# Altium schematic symbol library MySchLib.SchLib: 286 symbols (part 4 of 5)
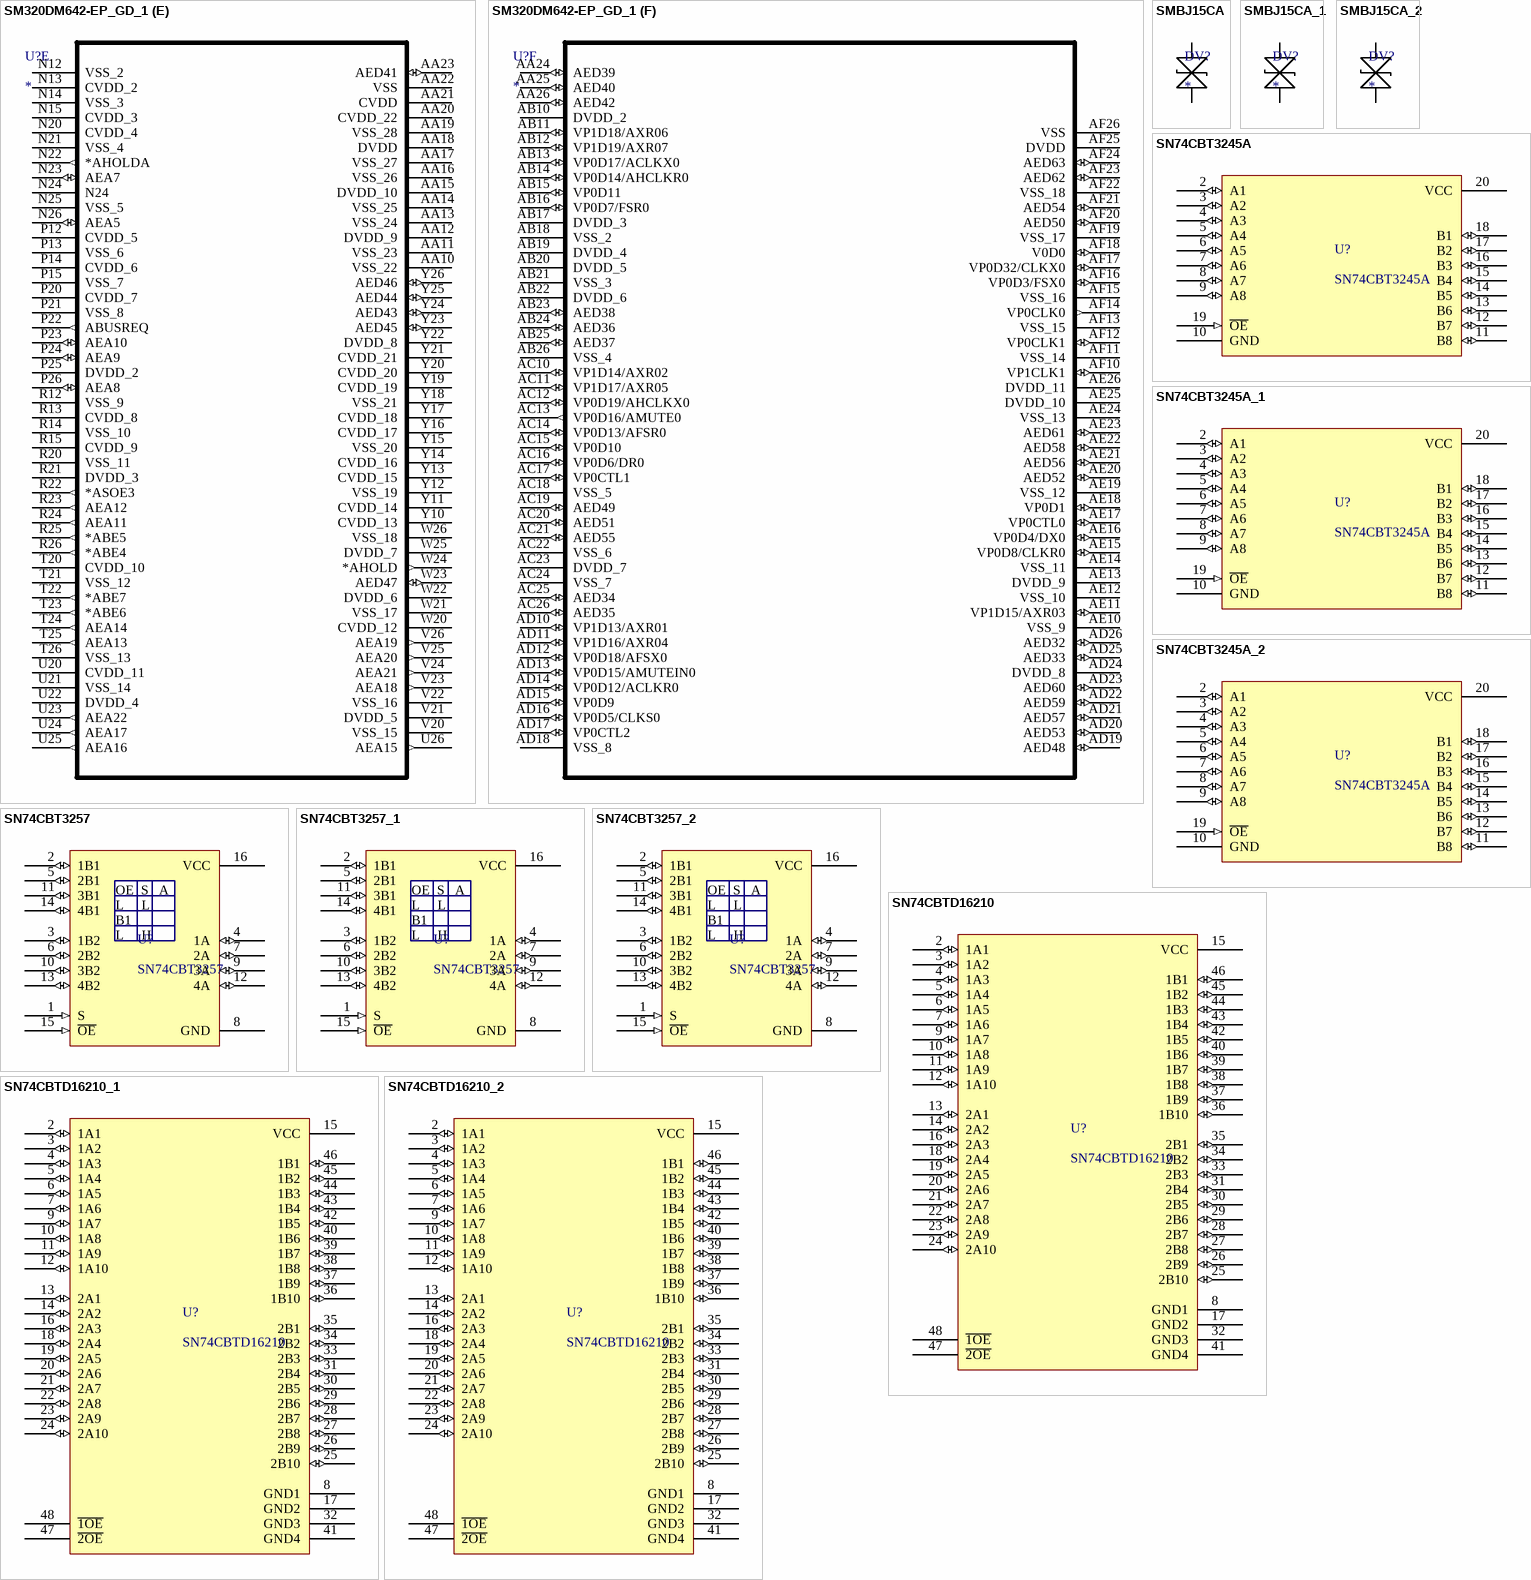
[diagram p32: symbols SM320DM642-EP_GD_1 to SN74CBTD16210_2]

## SM320DM642-EP_GD_1
designator U?
Imported
footprint GDK548; pin to pad A1>1 A2>2 A3>3 A4>4 A5>5 A6>6 A7>7 A8>8 A9>9 A10>10 A11>11 A12>12 A13>13 A14>14 A15>15 A16>16 A17>17 A18>18 A19>19 A20>20 A21>21 A22>22 A23>23 A24>24 A25>25 A26>26 AA1>393 AA2>394 AA3>395 AA4>396 AA5>397 AA6>398 AA7>399 AA8>400 AA9>401 AA10>402 AA11>403 AA12>404 AA13>405 AA14>406 AA15>407 AA16>408 AA17>409 AA18>410 AA19>411 AA20>412 AA21>413 AA22>414 AA23>415 AA24>416 AA25>417 AA26>418 AB1>419 AB2>420 AB3>421 AB4>422 AB5>423 AB6>424 AB7>425 AB8>426 AB9>427 AB10>428 AB11>429 AB12>430 AB13>431 AB14>432 AB15>433 AB16>434 AB17>435 AB18>436 AB19>437 AB20>438 AB21>439 AB22>440 AB23>441 AB24>442 AB25>443 AB26>444 AC1>445 AC2>446 AC3>447 AC4>448 AC5>449 AC6>450 AC7>451 AC8>452 AC9>453 AC10>454 AC11>455 AC12>456 AC13>457 AC14>458 AC15>459 AC16>460 AC17>461 AC18>462 AC19>463 AC20>464 AC21>465 AC22>466 AC23>467 AC24>468 AC25>469 AC26>470 AD1>471 AD2>472 AD3>473 AD4>474 AD5>475 AD6>476 AD7>477 AD8>478 AD9>479 AD10>480 AD11>481 AD12>482 AD13>483 AD14>484 AD15>485 AD16>486 AD17>487 AD18>488 AD19>489 AD20>490 AD21>491 AD22>492 AD23>493 AD24>494 AD25>495 AD26>496 AE1>497 AE2>498 AE3>499 AE4>500 AE5>501 AE6>502 AE7>503 AE8>504 AE9>505 AE10>506 AE11>507 AE12>508 AE13>509 AE14>510 AE15>511 AE16>512 AE17>513 AE18>514 AE19>515 AE20>516 AE21>517 AE22>518 AE23>519 AE24>520 AE25>521 AE26>522 AF1>523 AF2>524 AF3>525 AF4>526 AF5>527 AF6>528 AF7>529 AF8>530 AF9>531 AF10>532 AF11>533 AF12>534 AF13>535 AF14>536 AF15>537 AF16>538 AF17>539 AF18>540 AF19>541 AF20>542 AF21>543 AF22>544 AF23>545 AF24>546 AF25>547 AF26>548 B1>27 B2>28 B3>29 B4>30 B5>31 B6>32 B7>33 B8>34 B9>35 B10>36 B11>37 B12>38 B13>39 B14>40 B15>41 B16>42 B17>43 B18>44 B19>45 B20>46 B21>47 B22>48 B23>49 B24>50 B25>51 B26>52 C1>53 C2>54 C3>55 C4>56 C5>57 C6>58 C7>59 C8>60 C9>61 C10>62 C11>63 C12>64 C13>65 C14>66 C15>67 C16>68 C17>69 C18>70 C19>71 C20>72 C21>73 C22>74 C23>75 C24>76 C25>77 C26>78 D1>79 D2>80 D3>81 D4>82 D5>83 D6>84 D7>85 D8>86 D9>87 D10>88 D11>89 D12>90 D13>91 D14>92 D15>93 D16>94 D17>95 D18>96 D19>97 D20>98 D21>99 D22>100 D23>101 D24>102 D25>103 D26>104 E1>105 E2>106 E3>107 E4>108 E5>109 E6>110 E7>111 E8>112 E9>113 E10>114 E11>115 E12>116 E13>117 E14>118 E15>119 E16>120 E17>121 E18>122 E19>123 E20>124 E21>125 E22>126 E23>127 E24>128 E25>129 E26>130 F1>131 F2>132 F3>133 F4>134 F5>135 F6>136 F7>137 F8>138 F9>139 F10>140 F11>141 F12>142 F13>143 F14>144 F15>145 F16>146 F17>147 F18>148 F19>149 F20>150 F21>151 F22>152 F23>153 F24>154 F25>155 F26>156 G1>157 G2>158 G3>159 G4>160 G5>161 G6>162 G7>163 G8>164 G9>165 G10>166 G11>167 G12>168 G13>169 G14>170 G15>171 G16>172 G17>173 G18>174 G19>175 G20>176 G21>177 G22>178 G23>179 G24>180 G25>181 G26>182 H1>183 H2>184 H3>185 H4>186 H5>187 H6>188 H7>189 H20>190 H21>191 H22>192 H23>193 H24>194 H25>195 H26>196 J1>197 J2>198 J3>199 J4>200 J5>201 J6>202 J7>203 J20>204 J21>205 J22>206 J23>207 J24>208 J25>209 J26>210 K1>211 K2>212 K3>213 K4>214 K5>215 K6>216 K7>217 K20>218 K21>219 K22>220 K23>221 K24>222 K25>223 K26>224 L1>225 L2>226 L3>227 L4>228 L5>229 L6>230 L7>231 L20>232 L21>233 L22>234 L23>235 L24>236 L25>237 L26>238 M1>239 M2>240 M3>241 M4>242 M5>243 M6>244 M7>245 M12>246 M13>247 M14>248 M15>249 M20>250 M21>251 M22>252 M23>253 M24>254 M25>255 M26>256 N1>257 N2>258 N3>259 N4>260 N5>261 N6>262 N7>263 N12>264 N13>265 N14>266 N15>267 N20>268 N21>269 N22>270 N23>271 N24>272 N25>273 N26>274 P1>275 P2>276 P3>277 P4>278 P5>279 P6>280 P7>281 P12>282 P13>283 P14>284 P15>285 P20>286 P21>287 P22>288 P23>289 P24>290 P25>291 P26>292 R1>293 R2>294 R3>295 R4>296 R5>297 R6>298 R7>299 R12>300 R13>301 R14>302 R15>303 R20>304 R21>305 R22>306 R23>307 R24>308 R25>309 R26>310 T1>311 T2>312 T3>313 T4>314 T5>315 T6>316 T7>317 T20>318 T21>319 T22>320 T23>321 T24>322 T25>323 T26>324 U1>325 U2>326 U3>327 U4>328 U5>329 U6>330 U7>331 U20>332 U21>333 U22>334 U23>335 U24>336 U25>337 U26>338 V1>339 V2>340 V3>341 V4>342 V5>343 V6>344 V7>345 V20>346 V21>347 V22>348 V23>349 V24>350 V25>351 V26>352 W1>353 W2>354 W3>355 W4>356 W5>357 W6>358 W7>359 W20>360 W21>361 W22>362 W23>363 W24>364 W25>365 W26>366 Y1>367 Y2>368 Y3>369 Y4>370 Y5>371 Y6>372 Y7>373 Y8>374 Y9>375 Y10>376 Y11>377 Y12>378 Y13>379 Y14>380 Y15>381 Y16>382 Y17>383 Y18>384 Y19>385 Y20>386 Y21>387 Y22>388 Y23>389 Y24>390 Y25>391 Y26>392
part A pins: A1 VSS_2 (power), A2 DVDD_2 (power), A3 VSS_3 (power), A4 TINP0 (out), A5 TINP1 (out), A6 VSS_4 (power), A7 VP2CLK0 (out), A8 VSS_5 (power), A9 VP2D2 (io), B1 DVDD_3 (power), B2 DVDD_4 (power), B3 VSS_6 (power), B4 NMI (out), B5 TOUT1/LENDIAN (out), B6 VSS_7 (power), B7 VSS_8 (power), B8 VP2CTL0 (io), B9 VP2D3 (io), C1 GP014/PCLK (io), C2 VSS_9 (power), C3 DVDD_5 (power), C4 VSS_10 (power), C5 TOUT0/MAC_EN (out), C6 CLKOUT6/GP02 (io), C7 VP2CTL2 (io), C8 VP2D0 (io), C9 VP2D4 (io), D1 VSS_11 (power), D2 VSS_12 (power), D3 SDA0 (io), D4 DVDD_6 (power), D5 VSS_13 (power), D6 CLKOUT4/GP01 (io), D7 VP2CTL1 (io), D8 VP2D1 (io), D9 VP2D5 (io), E1 GP07/EXT_INT7 (io), E2 PCI_EN (out), E3 VSS_14 (power), E4 SCL0 (io), E5 DVDD_7 (power), E6 VSS_15 (power), E7 DVDD_8 (power), E8 DVDD_9 (power), E9 VSS_16 (power), F1 GP011/*PREQ (io), F2 GP06/EXT_INT6 (io), F3 GP05/EXT_INT5 (io), F4 GP04/EXT_INT4 (io), F5 VSS_17 (power), F6 CVDD_2 (power), F7 CVDD_3 (power), F8 VSS_18 (power), F9 DVDD_10 (power), G1 HD31/AD31/MRCLK (out), G2 HD29/AD29/MRXER (out), G3 GP015/*PRST (io), G4 GP013/*PINTA (io), G5 DVDD_11 (power), G6 CVDD_4 (power), G7 CVDD_5 (power), G8 CVDD_6 (power), G9 VSS_19 (power), H1 VSS_20 (power), H2 HD27/AD27/MRXD3 (out), H3 HD30/AD30/MCRS (out), H4 GP012/*PGNT (io), H5 DVDD_12 (power), H6 VSS_21 (power), H7 RSV, J1 HD25/AD25/MRXD1 (io), J2 GP010/*PCBE3 (io), J3 HD256/AD26/MRXD2 (out), J4 HD28/AD28/MRXDV (out), J5 VSS_22 (power), J6 DVDD_13 (power), J7 VSS_23 (power), K1 HD23/AD23 (io), K2 HD21/AD21/MCOL (out), K3 GP09/PIDSEL (io), K4 HD24/AD24/MRXD0 (out), K5 DVDD (power), K6 VSS_24 (power), K7 CVDD_7 (power), L1 VSS_25 (power), L2 HD19/AD19/MTXD3 (out), L3 HD20/AD20/MTXEN (out), L4 HD22/AD22/MTCLK (out), L5 GP03/PCIEEAI (io), L6 VSS (power), L7 CVDD (power), M1 HR/*W/*PCBE2 (io)
part B pins: A10 VP2D6 (io), A11 VP2D10 (io), A12 VSS_17 (power), A13 VP2CLK1 (io), A14 VSS_18 (power), A15 EMU0 (io), A16 TCK (out), A17 EMU7 (io), A18 TDI (out), A19 VSS_19 (power), A20 AED13 (io), A21 AED9 (io), A22 VSS_20 (power), A23 AED5 (io), A24 AED1 (io), A25 DVDD_7 (power), A26 VSS_21 (power), AA1 HD1/AD1 (io), AA2 CLKMODE0 (io), AA3 RSV, AA4 VSS_22 (power), AA5 VSS_23 (power), AA6 CVDD_9 (power), AA7 CVDD (power), AA8 VSS_24 (power), AA9 DVDD (power), AB1 VSS_25 (power), AB2 VSS (power), M2 HD17/AD17/MTXD1 (out), M3 HD16/AD16/MTCD0 (io), M4 HD18/AD18/MTXD2 (out), M5 GP00 (io), M6 DVDD_2 (power), M7 VSS_2 (power), N1 *HRDY/*PIRDY (io), N2 DVDD_3 (power), N3 HHWIL/*PTRDY (io), N4 *HINT/*PFRAME (io), N5 VSS_3 (power), N6 VSS_4 (power), N7 CVDD_2 (power), P1 HCNTL1/*PDEVSEL (io), P2 VSS_5 (power), P3 *HAS/PPAR (io), P4 *RESET (out), P5 XSP_DO/MDIO (io), P6 VSS_6 (power), P7 CVDD_3 (power), R1 *HCS/*PPERR (io), R2 *HDS1/*PSERR (io), R3 HCNTL0/*PSTOP (io), R4 XSP_DI (out), R5 XSP_CLK/MDCLK (io), R6 RSV_2, R7 VSS_7 (power), T1 VSS_8 (power), T2 *HDS2/*PCBE1 (io), T3 HD15/AD15 (io), T4 XSP_CS (io), T5 VSS_9 (power), T6 VSS_10 (power), T7 CVDD_4 (power), U1 HD14/AD14 (io), U2 HD12/AD12 (io), U3 HD13/AD13 (io), U4 HD11/AD11 (io), U5 DVDD_4 (power), U6 VSS_11 (power), U7 CVDD_5 (power), V1 HD10/AD10 (io), V2 HD8/AD8 (io), V3 HD0/AD9 (io), V4 *PCBE0 (io), V5 VSS_12 (power), V6 PLLV (power), V7 VSS_13 (power), W1 VSS_14 (power), W2 HD7/AD7 (io), W3 HD4/AD4 (io), W4 HD6/AD6 (io), W5 DVDD_5 (power), W6 VSS_15 (power), W7 RSV_3, Y1 HD5/AD5 (io), Y2 HD3/AD3 (io), Y3 HD0/AD0 (io), Y4 HD2/AD2 (io), Y5 DVDD_6 (power), Y6 CVDD_6 (power), Y7 CVDD_7 (power), Y8 CVDD_8 (power), Y9 VSS_16 (power)
part C pins: AB3 RSV_2, AB4 VSS_2 (power), AB5 DVDD_2 (power), AB6 VSS_3 (power), AB7 DVDD_3 (power), AB8 DVDD_4 (power), AB9 VSS_4 (power), AC1 STCLK (out), AC2 CLKIN (out), AC3 VSS_5 (power), AC4 RSV_3, AC5 VSS_6 (power), AC6 VP1D4/DX1 (io), AC7 VP1D7/FSR1 (io), AC8 VP1D9 (io), AC9 VP1D12/AXR00 (io), AD1 VDAC/GP08/*PCI66 (io), AD2 VSS_7 (power), AD3 RSV_4, AD4 VSS_8 (power), AD5 VP1CTL2 (io), AD6 VP1D3/FSX1 (io), AD7 VP1D6/DR1 (io), AD8 VP1D8/CLKR1 (io), AD9 VP1D11 (io), AE1 DVDD_5 (power), AE2 DVDD_6 (power), AE3 VSS_9 (power), AE4 CLKMODE1 (out), AE5 VP1CTL1 (io), AE6 VP1D2/CLKX1 (io), AE7 VP1D5/CLKS1 (out), AE8 VSS_10 (power), AE9 VP1D10 (io), AF1 VSS_11 (power), AF2 DVDD_7 (power), AF3 RSV, AF4 VP1CTL0 (io), AF5 VP1D0 (io), AF6 VP1D1 (io), AF7 VSS_12 (power), AF8 VP1CLK0 (out), AF9 VSS_13 (power), B10 VP2D7 (io), B11 VP2D11 (io), B12 VP2D15 (io), B13 VSS_14 (power), B14 DVDD_8 (power), B15 EMU2 (io), B16 EMU5 (io), B17 EMU9 (io), B18 TDO (out), B19 VSS_15 (power), B20 AED11 (io), B21 AED7 (io), B22 AED3 (io), B23 AED2 (io), B24 AED0 (io), B25 DVDD_9 (power), B26 DVDD_10 (power), C10 VP2D8 (io), C11 VP2D12 (io), C12 VP2D16 (io), C13 VSS_16 (power), C14 EMU11_2 (io), C15 EMU3 (io), C16 EMU6 (io), C17 EMU10 (io), C18 VSS_17 (power), C19 AED15 (io), C20 AED10 (io), C21 AED6 (io), C22 AED4 (io), C23 VSS_18 (power), C24 DVDD_11 (power), C25 AED30 (io), C26 AED31 (io), D10 VP2D9 (io), D11 VP2D13 (io), D12 VP2D17 (io), D13 VSS_19 (power), D14 *TRST (out), D15 EMU4 (io), D16 EMU8 (io), D17 EMU11 (io), D18 VSS_20 (power), D19 AED14 (io), D20 AED12 (io), D21 AED8 (io), D22 VSS_21 (power), D23 DVDD (power), D24 VSS (power)
part D pins: D25 AED28 (io), D26 AED29 (io), E10 DVDD_2 (power), E11 VP2D14 (io), E12 VP2D18 (io), E13 VP2D19 (io), E14 RSV, E15 TMS (out), E16 VSS_2 (power), E17 DVDD_3 (power), E18 VSS_3 (power), E19 DVDD_4 (power), E20 DVDD_5 (power), E21 VSS_4 (power), E22 DVDD_6 (power), E23 VSS_5 (power), E24 AED27 (io), E25 AED26 (io), E26 VSS_6 (power), F10 VSS_7 (power), F11 VSS_8 (power), F12 DVDD_7 (power), F13 VSS_9 (power), F14 VSS_10 (power), F15 DVDD_8 (power), F16 VSS_11 (power), F17 VSS_12 (power), F18 DVDD_9 (power), F19 VSS_13 (power), F20 CVDD_2 (power), F21 CVDD_3 (power), F22 VSS_14 (power), F23 AED23 (io), F24 AED25 (io), F25 AED24 (io), F26 AED22 (io), G10 CVDD_4 (power), G11 CVDD_5 (power), G12 VSS_15 (power), G13 CVDD_6 (power), G14 CVDD_7 (power), G15 VSS_16 (power), G16 CVDD_8 (power), G17 CVDD_9 (power), G18 VSS_17 (power), G19 CVDD_10 (power), G20 CVDD_11 (power), G21 CVDD_12 (power), G22 DVDD_10 (power), G23 AED19 (io), G24 AED21 (io), G25 AED20 (io), G26 AED18 (io), H20 CVDD_13 (power), H21 VSS_18 (power), H22 DVDD_11 (power), H23 AED17 (io), H24 AED16 (io), H25 AECLKIN (out), H26 VSS_19 (power), J20 VSS_20 (power), J21 DVDD_12 (power), J22 VSS_21 (power), J23 AECLKOUT2 (out), J24 *AAOE/*ASDRAS/*ASOE (out), J25 *AARE/*ASDCAS/*ASADS/*ASRE (out), J26 AECLKOUT1 (out), K20 CVDD_14 (power), K21 VSS_22 (power), K22 DVDD_13 (power), K23 *ACE2 (out), K24 *ACE1 (out), K25 *ACE0 (out), K26 *AAWE/*ASDWE/*ASWE (out), L20 CVDD_15 (power), L21 VSS_23 (power), L22 AARDY (out), L23 *ABE1 (out), L24 *ABE0 (out), L25 ASDCKE (out), L26 *ACE3 (out), M12 CVDD_16 (power), M13 VSS_24 (power), M14 CVDD (power), M15 VSS_25 (power), M20 VSS (power), M21 DVDD (power), M22 *APDT (out), M23 AEA4 (io), M24 AEA3 (io), M25 *ABE3 (out), M26 *ABE2 (out)
part E pins: AA10 VSS_22 (power), AA11 VSS_23 (power), AA12 DVDD_9 (power), AA13 VSS_24 (power), AA14 VSS_25 (power), AA15 DVDD_10 (power), AA16 VSS_26 (power), AA17 VSS_27 (power), AA18 DVDD (power), AA19 VSS_28 (power), AA20 CVDD_22 (power), AA21 CVDD (power), AA22 VSS (power), AA23 AED41 (io), N12 VSS_2 (power), N13 CVDD_2 (power), N14 VSS_3 (power), N15 CVDD_3 (power), N20 CVDD_4 (power), N21 VSS_4 (power), N22 *AHOLDA (out), N23 AEA7 (io), N24, N25 VSS_5 (power), N26 AEA5 (io), P12 CVDD_5 (power), P13 VSS_6 (power), P14 CVDD_6 (power), P15 VSS_7 (power), P20 CVDD_7 (power), P21 VSS_8 (power), P22 ABUSREQ (out), P23 AEA10 (io), P24 AEA9 (io), P25 DVDD_2 (power), P26 AEA8 (io), R12 VSS_9 (power), R13 CVDD_8 (power), R14 VSS_10 (power), R15 CVDD_9 (power), R20 VSS_11 (power), R21 DVDD_3 (power), R22 *ASOE3 (out), R23 AEA12 (out), R24 AEA11 (out), R25 *ABE5 (out), R26 *ABE4 (out), T20 CVDD_10 (power), T21 VSS_12 (power), T22 *ABE7 (out), T23 *ABE6 (out), T24 AEA14 (out), T25 AEA13 (out), T26 VSS_13 (power), U20 CVDD_11 (power), U21 VSS_14 (power), U22 DVDD_4 (power), U23 AEA22 (out), U24 AEA17 (out), U25 AEA16 (out), U26 AEA15 (out), V20 VSS_15 (power), V21 DVDD_5 (power), V22 VSS_16 (power), V23 AEA18 (out), V24 AEA21 (out), V25 AEA20 (out), V26 AEA19 (out), W20 CVDD_12 (power), W21 VSS_17 (power), W22 DVDD_6 (power), W23 AED47 (io), W24 *AHOLD (out), W25 DVDD_7 (power), W26 VSS_18 (power), Y10 CVDD_13 (power), Y11 CVDD_14 (power), Y12 VSS_19 (power), Y13 CVDD_15 (power), Y14 CVDD_16 (power), Y15 VSS_20 (power), Y16 CVDD_17 (power), Y17 CVDD_18 (power), Y18 VSS_21 (power), Y19 CVDD_19 (power), Y20 CVDD_20 (power), Y21 CVDD_21 (power), Y22 DVDD_8 (power), Y23 AED45 (io), Y24 AED43 (io), Y25 AED44 (io), Y26 AED46 (io)
part F pins: AA24 AED39 (io), AA25 AED40 (io), AA26 AED42 (io), AB10 DVDD_2 (power), AB11 VP1D18/AXR06 (io), AB12 VP1D19/AXR07 (io), AB13 VP0D17/ACLKX0 (io), AB14 VP0D14/AHCLKR0 (io), AB15 VP0D11 (io), AB16 VP0D7/FSR0 (io), AB17 DVDD_3 (power), AB18 VSS_2 (power), AB19 DVDD_4 (power), AB20 DVDD_5 (power), AB21 VSS_3 (power), AB22 DVDD_6 (power), AB23 AED38 (io), AB24 AED36 (io), AB25 AED37 (io), AB26 VSS_4 (power), AC10 VP1D14/AXR02 (io), AC11 VP1D17/AXR05 (io), AC12 VP0D19/AHCLKX0 (io), AC13 VP0D16/AMUTE0 (out), AC14 VP0D13/AFSR0 (io), AC15 VP0D10 (io), AC16 VP0D6/DR0 (io), AC17 VP0CTL1 (io), AC18 VSS_5 (power), AC19 AED49 (io), AC20 AED51 (io), AC21 AED55 (io), AC22 VSS_6 (power), AC23 DVDD_7 (power), AC24 VSS_7 (power), AC25 AED34 (io), AC26 AED35 (io), AD10 VP1D13/AXR01 (io), AD11 VP1D16/AXR04 (io), AD12 VP0D18/AFSX0 (io), AD13 VP0D15/AMUTEIN0 (io), AD14 VP0D12/ACLKR0 (io), AD15 VP0D9 (io), AD16 VP0D5/CLKS0 (io), AD17 VP0CTL2 (io), AD18 VSS_8 (power), AD19 AED48 (io), AD20 AED53 (io), AD21 AED57 (io), AD22 AED59 (io), AD23 AED60 (io), AD24 DVDD_8 (power), AD25 AED33 (io), AD26 AED32 (io), AE10 VSS_9 (power), AE11 VP1D15/AXR03 (io), AE12 VSS_10 (power), AE13 DVDD_9 (power), AE14 VSS_11 (power), AE15 VP0D8/CLKR0 (io), AE16 VP0D4/DX0 (io), AE17 VP0CTL0 (io), AE18 VP0D1 (io), AE19 VSS_12 (power), AE20 AED52 (io), AE21 AED56 (io), AE22 AED58 (io), AE23 AED61 (io), AE24 VSS_13 (power), AE25 DVDD_10 (power), AE26 DVDD_11 (power), AF10 VP1CLK1 (io), AF11 VSS_14 (power), AF12 VP0CLK1 (io), AF13 VSS_15 (power), AF14 VP0CLK0 (out), AF15 VSS_16 (power), AF16 VP0D3/FSX0 (io), AF17 VP0D32/CLKX0 (io), AF18 V0D0 (io), AF19 VSS_17 (power), AF20 AED50 (io), AF21 AED54 (io), AF22 VSS_18 (power), AF23 AED62 (io), AF24 AED63 (io), AF25 DVDD (power), AF26 VSS (power)

## SMBJ15CA
designator DV?
footprint DO-214AA
pins: A, K

## SMBJ15CA_1
designator DV?
footprint DO-214AA
pins: A, K

## SMBJ15CA_2
designator DV?
footprint DO-214AA
pins: A, K

## SN74CBT3245A
designator U?
5-Ω Switch Connection Between Two Ports
pins: 2 A1 (io), 3 A2 (io), 4 A3 (io), 5 A4 (io), 6 A5 (io), 7 A6 (io), 8 A7 (io), 9 A8 (io), 10 GND (oe), 11 B8 (io), 12 B7 (io), 13 B6 (io), 14 B5 (io), 15 B4 (io), 16 B3 (io), 17 B2 (io), 18 B1 (io), 19 ~{OE} (in), 20 VCC (power)

## SN74CBT3245A_1
designator U?, comment SN74CBT3245A
5-Ω Switch Connection Between Two Ports
pins: 2 A1 (io), 3 A2 (io), 4 A3 (io), 5 A4 (io), 6 A5 (io), 7 A6 (io), 8 A7 (io), 9 A8 (io), 10 GND (oe), 11 B8 (io), 12 B7 (io), 13 B6 (io), 14 B5 (io), 15 B4 (io), 16 B3 (io), 17 B2 (io), 18 B1 (io), 19 ~{OE} (in), 20 VCC (power)

## SN74CBT3245A_2
designator U?, comment SN74CBT3245A
5-Ω Switch Connection Between Two Ports
pins: 2 A1 (io), 3 A2 (io), 4 A3 (io), 5 A4 (io), 6 A5 (io), 7 A6 (io), 8 A7 (io), 9 A8 (io), 10 GND (oe), 11 B8 (io), 12 B7 (io), 13 B6 (io), 14 B5 (io), 15 B4 (io), 16 B3 (io), 17 B2 (io), 18 B1 (io), 19 ~{OE} (in), 20 VCC (power)

## SN74CBT3257
designator U?
S=0,OE=1,A=B1;S=0,OE=0,A=B1;
pins: 1 S (in), 2 1B1 (io), 3 1B2 (io), 4 1A (io), 5 2B1 (io), 6 2B2 (io), 7 2A (io), 8 GND (power), 9 3A (io), 10 3B2 (io), 11 3B1 (io), 12 4A (io), 13 4B2 (io), 14 4B1 (io), 15 ~{OE} (in), 16 VCC (power)
text: OE  S   A / L     L   B1 / L     H  B2 / H    X   X

## SN74CBT3257_1
designator U?, comment SN74CBT3257
S=0,OE=1,A=B1;S=0,OE=0,A=B1;
pins: 1 S (in), 2 1B1 (io), 3 1B2 (io), 4 1A (io), 5 2B1 (io), 6 2B2 (io), 7 2A (io), 8 GND (power), 9 3A (io), 10 3B2 (io), 11 3B1 (io), 12 4A (io), 13 4B2 (io), 14 4B1 (io), 15 ~{OE} (in), 16 VCC (power)
text: OE  S   A / L     L   B1 / L     H  B2 / H    X   X

## SN74CBT3257_2
designator U?, comment SN74CBT3257
S=0,OE=1,A=B1;S=0,OE=0,A=B1;
pins: 1 S (in), 2 1B1 (io), 3 1B2 (io), 4 1A (io), 5 2B1 (io), 6 2B2 (io), 7 2A (io), 8 GND (power), 9 3A (io), 10 3B2 (io), 11 3B1 (io), 12 4A (io), 13 4B2 (io), 14 4B1 (io), 15 ~{OE} (in), 16 VCC (power)
text: OE  S   A / L     L   B1 / L     H  B2 / H    X   X

## SN74CBTD16210
designator U?
5-W Switch Connection Between Two Ports
pins: 2 1A1 (io), 3 1A2 (io), 4 1A3 (io), 5 1A4 (io), 6 1A5 (io), 7 1A6 (io), 8 GND1 (oe), 9 1A7 (io), 10 1A8 (io), 11 1A9 (io), 12 1A10 (io), 13 2A1 (io), 14 2A2 (io), 15 VCC (power), 16 2A3 (io), 17 GND2 (oe), 18 2A4 (io), 19 2A5 (io), 20 2A6 (io), 21 2A7 (io), 22 2A8 (io), 23 2A9 (io), 24 2A10 (io), 25 2B10 (io), 26 2B9 (io), 27 2B8 (io), 28 2B7 (io), 29 2B6 (io), 30 2B5 (io), 31 2B4 (io), 32 GND3 (oe), 33 2B3 (io), 34 2B2 (io), 35 2B1 (io), 36 1B10 (io), 37 1B9 (io), 38 1B8 (io), 39 1B7 (io), 40 1B6 (io), 41 GND4 (oe), 42 1B5 (io), 43 1B4 (io), 44 1B3 (io), 45 1B2 (io), 46 1B1 (io), 47 ~{2OE} (oe), 48 ~{1OE} (oe)

## SN74CBTD16210_1
designator U?, comment SN74CBTD16210
5-W Switch Connection Between Two Ports
pins: 2 1A1 (io), 3 1A2 (io), 4 1A3 (io), 5 1A4 (io), 6 1A5 (io), 7 1A6 (io), 8 GND1 (oe), 9 1A7 (io), 10 1A8 (io), 11 1A9 (io), 12 1A10 (io), 13 2A1 (io), 14 2A2 (io), 15 VCC (power), 16 2A3 (io), 17 GND2 (oe), 18 2A4 (io), 19 2A5 (io), 20 2A6 (io), 21 2A7 (io), 22 2A8 (io), 23 2A9 (io), 24 2A10 (io), 25 2B10 (io), 26 2B9 (io), 27 2B8 (io), 28 2B7 (io), 29 2B6 (io), 30 2B5 (io), 31 2B4 (io), 32 GND3 (oe), 33 2B3 (io), 34 2B2 (io), 35 2B1 (io), 36 1B10 (io), 37 1B9 (io), 38 1B8 (io), 39 1B7 (io), 40 1B6 (io), 41 GND4 (oe), 42 1B5 (io), 43 1B4 (io), 44 1B3 (io), 45 1B2 (io), 46 1B1 (io), 47 ~{2OE} (oe), 48 ~{1OE} (oe)

## SN74CBTD16210_2
designator U?, comment SN74CBTD16210
5-W Switch Connection Between Two Ports
pins: 2 1A1 (io), 3 1A2 (io), 4 1A3 (io), 5 1A4 (io), 6 1A5 (io), 7 1A6 (io), 8 GND1 (oe), 9 1A7 (io), 10 1A8 (io), 11 1A9 (io), 12 1A10 (io), 13 2A1 (io), 14 2A2 (io), 15 VCC (power), 16 2A3 (io), 17 GND2 (oe), 18 2A4 (io), 19 2A5 (io), 20 2A6 (io), 21 2A7 (io), 22 2A8 (io), 23 2A9 (io), 24 2A10 (io), 25 2B10 (io), 26 2B9 (io), 27 2B8 (io), 28 2B7 (io), 29 2B6 (io), 30 2B5 (io), 31 2B4 (io), 32 GND3 (oe), 33 2B3 (io), 34 2B2 (io), 35 2B1 (io), 36 1B10 (io), 37 1B9 (io), 38 1B8 (io), 39 1B7 (io), 40 1B6 (io), 41 GND4 (oe), 42 1B5 (io), 43 1B4 (io), 44 1B3 (io), 45 1B2 (io), 46 1B1 (io), 47 ~{2OE} (oe), 48 ~{1OE} (oe)

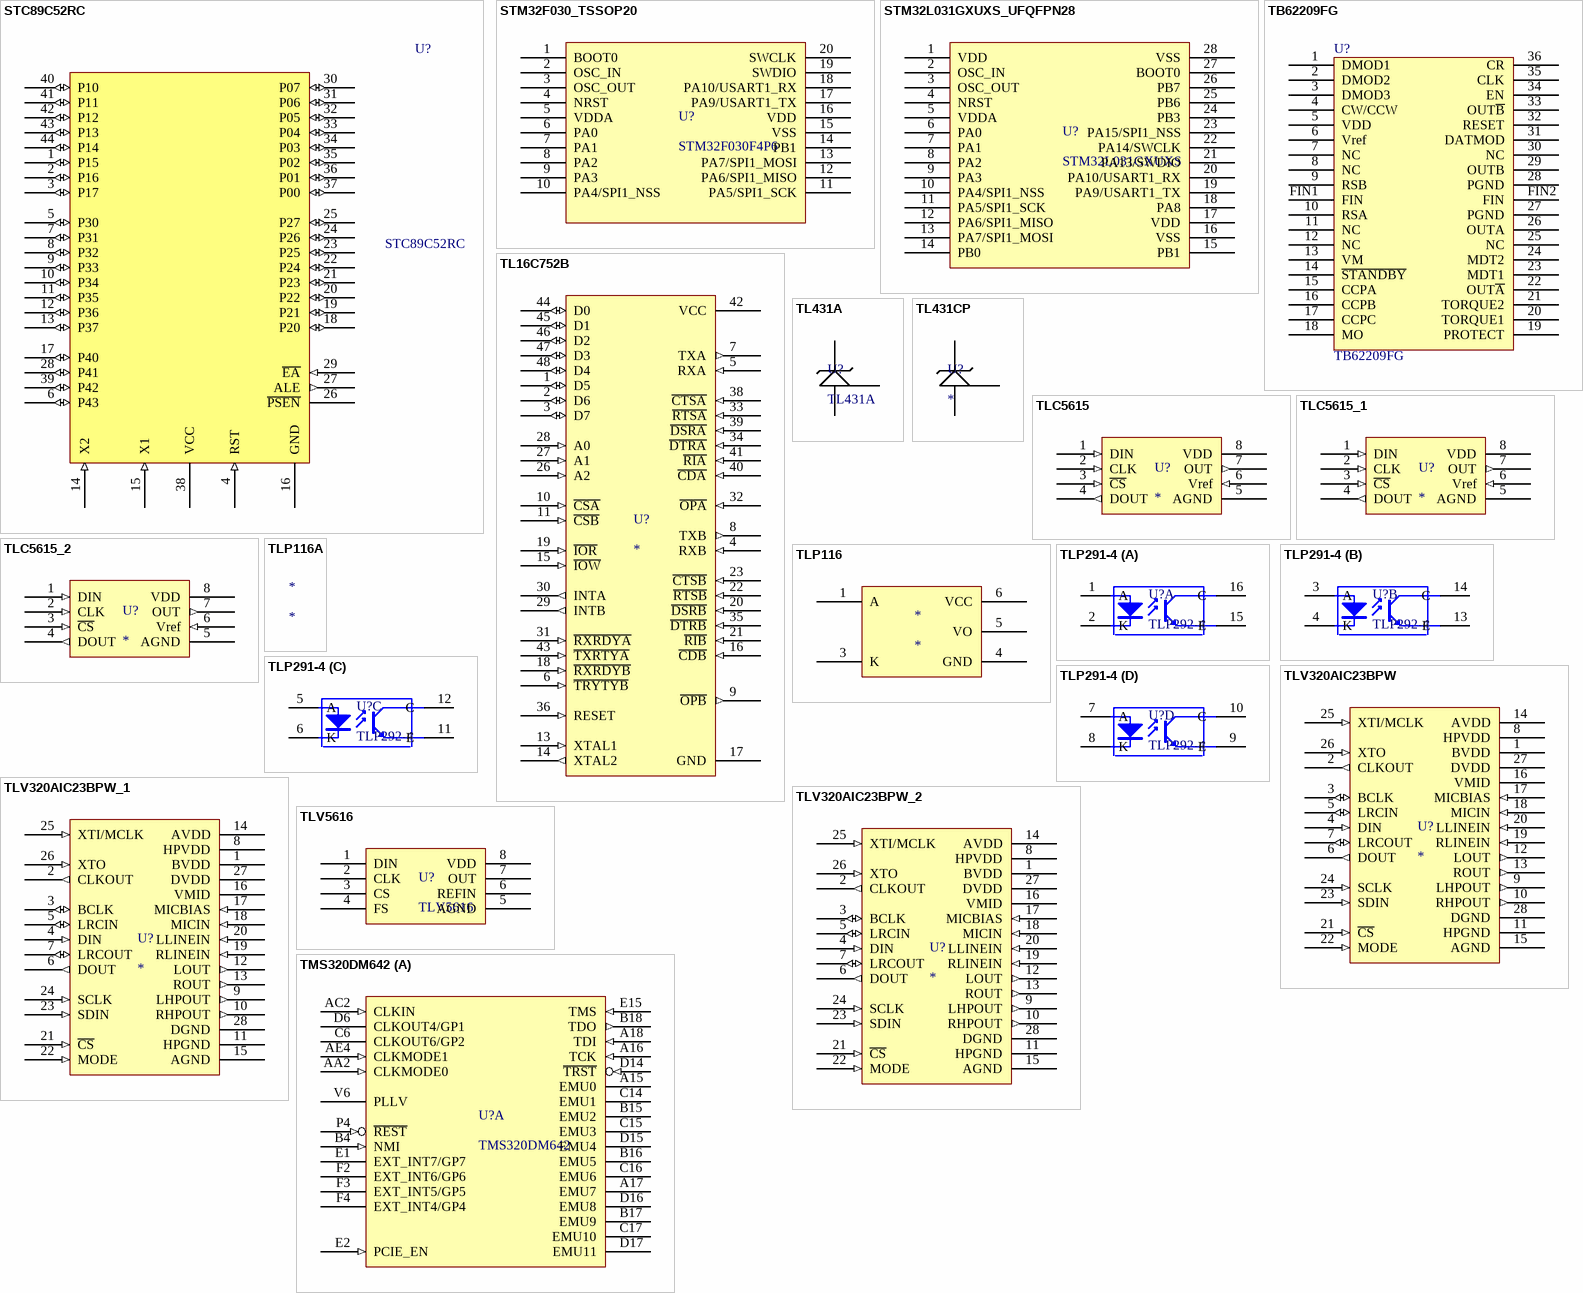
[diagram p23: symbols STC89C52RC to TMS320DM642]

## STC89C52RC
designator U?
STC
footprint PQFP44
footprint LQFP44
footprint QFP44
pins: 1 P15 (io), 2 P16 (io), 3 P17 (io), 4 RST (in), 5 P30 (io), 6 P43 (io), 7 P31 (io), 8 P32 (io), 9 P33 (io), 10 P34 (io), 11 P35 (io), 12 P36 (io), 13 P37 (io), 14 X2 (in), 15 X1 (in), 16 GND (power), 17 P40 (io), 18 P20 (io), 19 P21 (io), 20 P22 (io), 21 P23 (io), 22 P24 (io), 23 P25 (io), 24 P26 (io), 25 P27 (io), 26 ~{PSEN}, 27 ALE (out), 28 P41 (io), 29 ~{EA} (in), 30 P07 (io), 31 P06 (io), 32 P05 (io), 33 P04 (io), 34 P03 (io), 35 P02 (io), 36 P01 (io), 37 P00 (io), 38 VCC (power), 39 P42 (io), 40 P10 (io), 41 P11 (io), 42 P12 (io), 43 P13 (io), 44 P14 (io)

## STM32F030_TSSOP20
designator U?, comment STM32F030F4P6
footprint TSSOP-20
pins: 1 BOOT0, 2 OSC_IN, 3 OSC_OUT, 4 NRST, 5 VDDA, 6 PA0, 7 PA1, 8 PA2, 9 PA3, 10 PA4/SPI1_NSS, 11 PA5/SPI1_SCK, 12 PA6/SPI1_MISO, 13 PA7/SPI1_MOSI, 14 PB1, 15 VSS, 16 VDD, 17 PA9/USART1_TX, 18 PA10/USART1_RX, 19 SWDIO, 20 SWCLK

## STM32L031GXUXS_UFQFPN28
designator U?, comment STM32L031GXUXS
footprint UFQFPN28 (Footprint not found)
pins: 1 VDD, 2 OSC_IN, 3 OSC_OUT, 4 NRST, 5 VDDA, 6 PA0, 7 PA1, 8 PA2, 9 PA3, 10 PA4/SPI1_NSS, 11 PA5/SPI1_SCK, 12 PA6/SPI1_MISO, 13 PA7/SPI1_MOSI, 14 PB0, 15 PB1, 16 VSS, 17 VDD, 18 PA8, 19 PA9/USART1_TX, 20 PA10/USART1_RX, 21 PA13/SWDIO, 22 PA14/SWCLK, 23 PA15/SPI1_NSS, 24 PB3, 25 PB6, 26 PB7, 27 BOOT0, 28 VSS

## TB62209FG
designator U?
footprint HSOP36-P
pins: 1 DMOD1, 2 DMOD2, 3 DMOD3, 4 CW/CCW, 5 VDD, 6 Vref, 7 NC, 8 NC, 9 RSB, 10 RSA, 11 NC, 12 NC, 13 VM, 14 ~{STANDBY}, 15 CCPA, 16 CCPB, 17 CCPC, 18 MO, 19 PROTECT, 20 TORQUE1, 21 TORQUE2, 22 OUT~{A}, 23 MDT1, 24 MDT2, 25 NC, 26 OUTA, 27 PGND, 28 PGND, 29 OUTB, 30 NC, 31 DATMOD, 32 RESET, 33 OUT~{B}, 34 EN, 35 CLK, 36 CR, FIN1 FIN, FIN2 FIN

## TL16C752B
designator U?
footprint TQFP-48 (Footprint not found)
pins: 1 D5 (io), 2 D6 (io), 3 D7 (io), 4 RXB (in), 5 RXA (in), 6 ~{TRYTYB} (in), 7 TXA (out), 8 TXB (out), 9 ~{OPB} (out), 10 ~{CSA} (in), 11 ~{CSB} (in), 12 NC hidden, 13 XTAL1 (in), 14 XTAL2 (out), 15 ~{IOW} (in), 16 ~{CDB} (in), 17 GND (power), 18 ~{RXRDYB} (in), 19 ~{IOR} (in), 20 ~{DSRB} (in), 21 ~{RIB} (in), 22 ~{RTSB} (in), 23 ~{CTSB} (in), 24 NC hidden, 25 NC hidden, 26 A2 (in), 27 A1 (in), 28 A0 (in), 29 INTB (out), 30 INTA (out), 31 ~{RXRDYA} (in), 32 ~{OPA} (in), 33 ~{RTSA} (in), 34 ~{DTRA} (in), 35 ~{DTRB} (in), 36 RESET (in), 37 NC hidden, 38 ~{CTSA} (in), 39 ~{DSRA} (in), 40 ~{CDA} (in), 41 ~{RIA} (in), 42 VCC (power), 43 ~{TXRTYA} (in), 44 D0 (io), 45 D1 (io), 46 D2 (io), 47 D3 (io), 48 D4 (io)

## TL431A
designator U?
footprint SOT-23
pins: 1 CAT, 2 VER, 3 GND

## TL431CP
designator U?
pins: 1, 2, 3

## TLC5615
designator U?
DAC
footprint SOP-8
pins: 1 DIN (in), 2 CLK (in), 3 ~{CS} (in), 4 DOUT (out), 5 AGND (power), 6 Vref (in), 7 OUT (out), 8 VDD (power)

## TLC5615_1
designator U?
DAC
footprint SOP-8
pins: 1 DIN (in), 2 CLK (in), 3 ~{CS} (in), 4 DOUT (out), 5 AGND (power), 6 Vref (in), 7 OUT (out), 8 VDD (power)

## TLC5615_2
designator U?
DAC
footprint SOP-8
pins: 1 DIN (in), 2 CLK (in), 3 ~{CS} (in), 4 DOUT (out), 5 AGND (power), 6 Vref (in), 7 OUT (out), 8 VDD (power)

## TLP116
designator *
pins: 1 A, 3 K, 4 GND, 5 VO, 6 VCC

## TLP116A
designator *

## TLP291-4
designator U?, comment TLP292-4
footprint SOP16
part A pins: 1 A, 2 K, 15 E, 16 C
part B pins: 3 A, 4 K, 13 E, 14 C
part C pins: 5 A, 6 K, 11 E, 12 C
part D pins: 7 A, 8 K, 9 E, 10 C

## TLV320AIC23BPW
designator U?
footprint SSOP-28 (Footprint not found)
pins: 1 BVDD (power), 2 CLKOUT (out), 3 BCLK (io), 4 DIN (in), 5 LRCIN (io), 6 DOUT (out), 7 LRCOUT (io), 8 HPVDD (power), 9 LHPOUT (out), 10 RHPOUT (out), 11 HPGND (power), 12 LOUT (out), 13 ROUT (out), 14 AVDD (power), 15 AGND (power), 16 VMID (power), 17 MICBIAS (in), 18 MICIN (in), 19 RLINEIN (in), 20 LLINEIN (in), 21 ~{CS} (in), 22 MODE (in), 23 SDIN (in), 24 SCLK (in), 25 XTI/MCLK (in), 26 XTO (in), 27 DVDD (power), 28 DGND (power)

## TLV320AIC23BPW_1
designator U?
footprint SSOP-28 (Footprint not found)
pins: 1 BVDD (power), 2 CLKOUT (out), 3 BCLK (io), 4 DIN (in), 5 LRCIN (io), 6 DOUT (out), 7 LRCOUT (io), 8 HPVDD (power), 9 LHPOUT (out), 10 RHPOUT (out), 11 HPGND (power), 12 LOUT (out), 13 ROUT (out), 14 AVDD (power), 15 AGND (power), 16 VMID (power), 17 MICBIAS (in), 18 MICIN (in), 19 RLINEIN (in), 20 LLINEIN (in), 21 ~{CS} (in), 22 MODE (in), 23 SDIN (in), 24 SCLK (in), 25 XTI/MCLK (in), 26 XTO (in), 27 DVDD (power), 28 DGND (power)

## TLV320AIC23BPW_2
designator U?
footprint SSOP-28 (Footprint not found)
pins: 1 BVDD (power), 2 CLKOUT (out), 3 BCLK (io), 4 DIN (in), 5 LRCIN (io), 6 DOUT (out), 7 LRCOUT (io), 8 HPVDD (power), 9 LHPOUT (out), 10 RHPOUT (out), 11 HPGND (power), 12 LOUT (out), 13 ROUT (out), 14 AVDD (power), 15 AGND (power), 16 VMID (power), 17 MICBIAS (in), 18 MICIN (in), 19 RLINEIN (in), 20 LLINEIN (in), 21 ~{CS} (in), 22 MODE (in), 23 SDIN (in), 24 SCLK (in), 25 XTI/MCLK (in), 26 XTO (in), 27 DVDD (power), 28 DGND (power)

## TLV5616
designator U?
footprint SOP-8
pins: 1 DIN, 2 CLK, 3 CS, 4 FS, 5 AGND, 6 REFIN, 7 OUT, 8 VDD

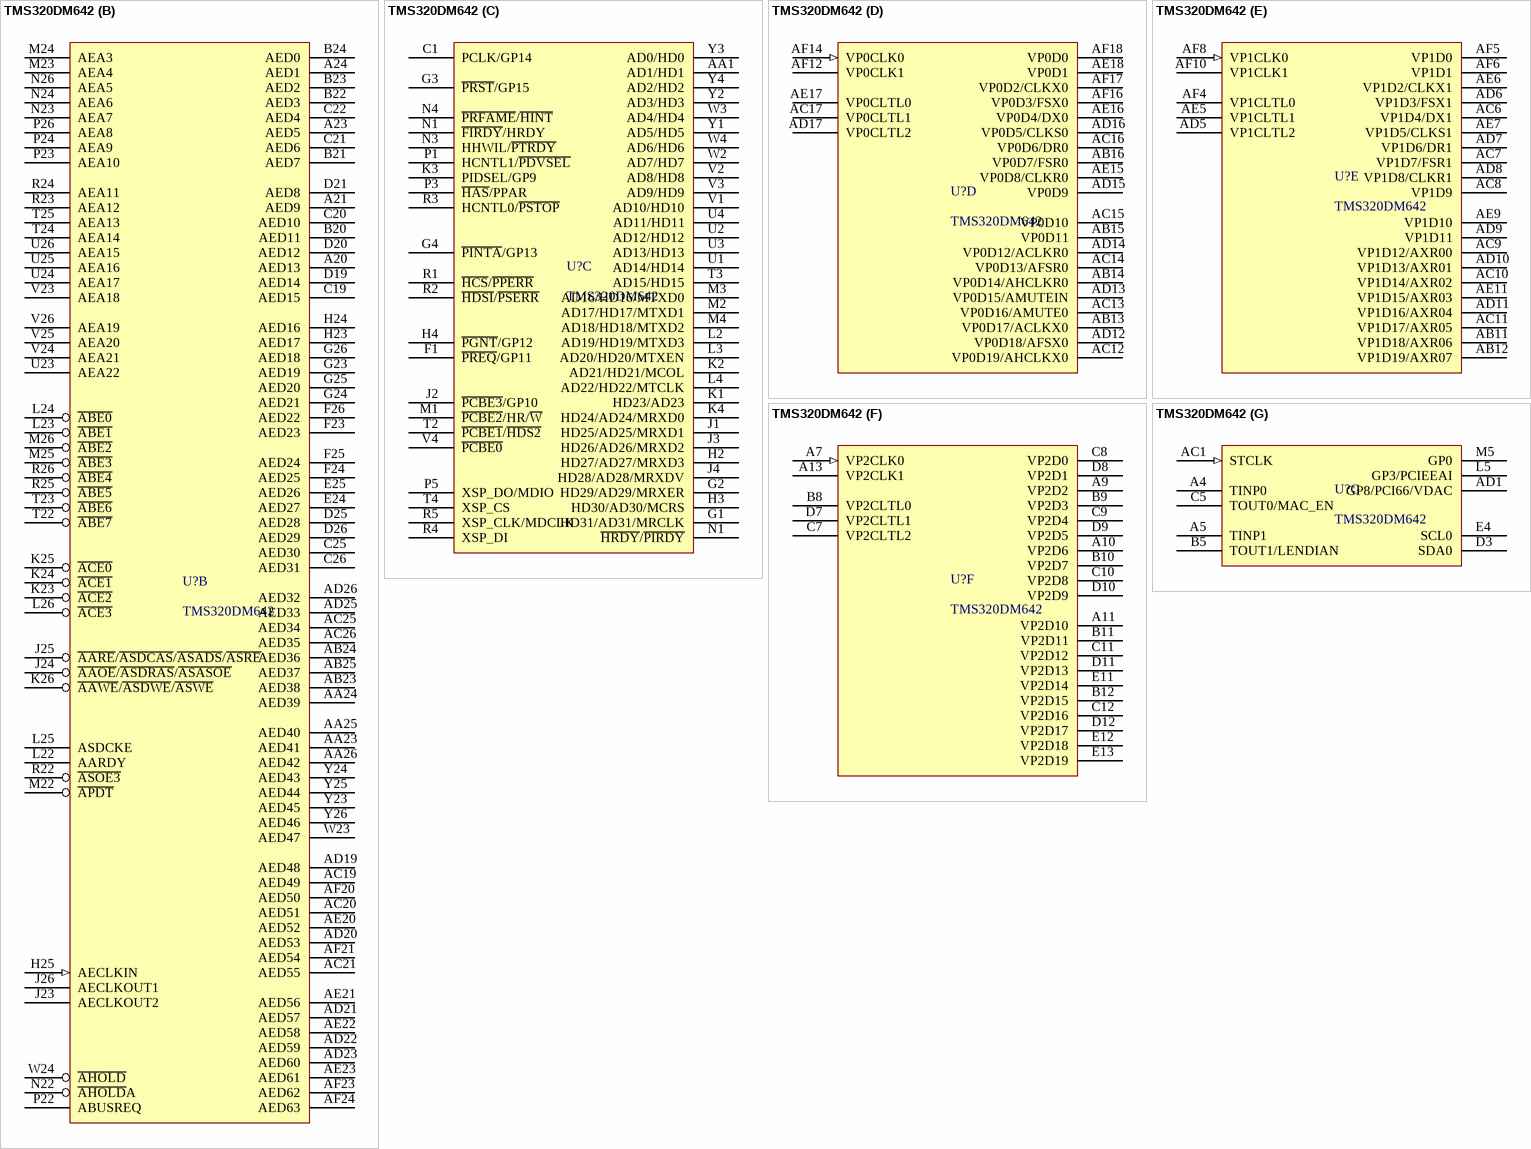
[diagram p24: symbol TMS320DM642]

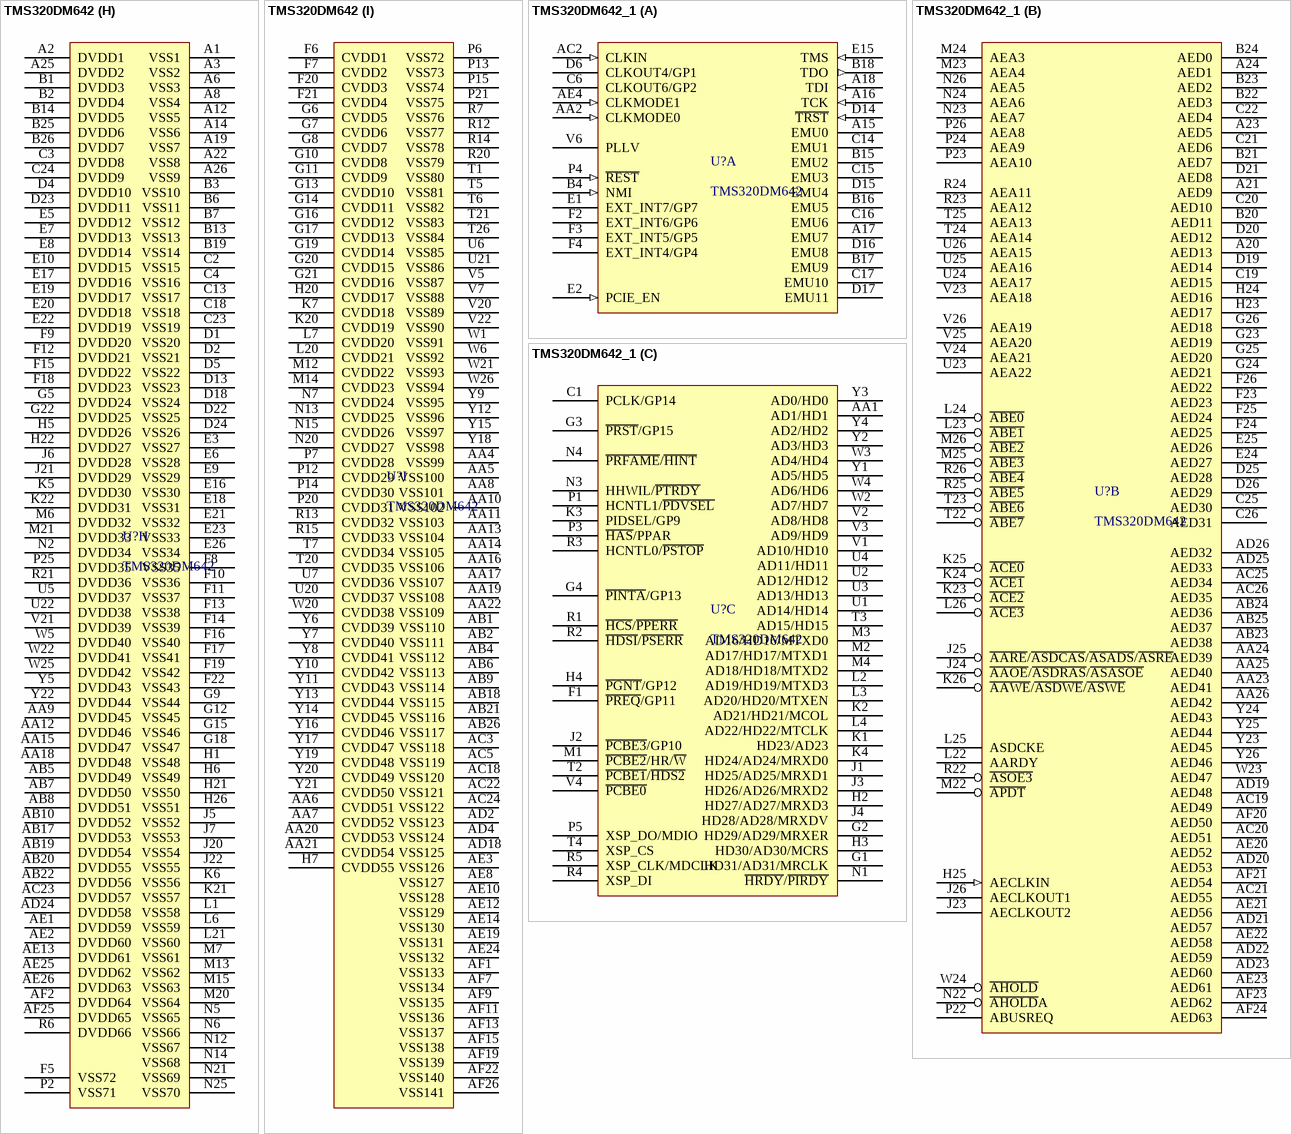
[diagram p25: symbols TMS320DM642 to TMS320DM642_1]

## TMS320DM642
designator U?
footprint GDK (Footprint not found)
footprint GNZ (Footprint not found)
footprint ZDK (Footprint not found)
footprint ZNZ (Footprint not found)
part A pins: A15 EMU0, A16 TCK (in), A17 EMU7, A18 TDI (in), AA2 CLKMODE0 (in), AC2 CLKIN (in), AE4 CLKMODE1 (in), B4 NMI (in), B15 EMU2, B16 EMU5, B17 EMU9, B18 TDO (out), C6 CLKOUT6/GP2, C14 EMU1, C15 EMU3, C16 EMU6, C17 EMU10, D6 CLKOUT4/GP1, D14 ~{TRST} (in), D15 EMU4, D16 EMU8, D17 EMU11, E1 EXT_INT7/GP7, E2 PCIE_EN (in), E15 TMS (in), F2 EXT_INT6/GP6, F3 EXT_INT5/GP5, F4 EXT_INT4/GP4, P4 ~{REST} (in), V6 PLLV
part B pins: A20 AED13, A21 AED9, A23 AED5, A24 AED1, AA23 AED41, AA24 AED39, AA25 AED40, AA26 AED42, AB23 AED38, AB24 AED36, AB25 AED37, AC19 AED49, AC20 AED51, AC21 AED55, AC25 AED34, AC26 AED35, AD19 AED48, AD20 AED53, AD21 AED57, AD22 AED59, AD23 AED60, AD25 AED33, AD26 AED32, AE20 AED52, AE21 AED56, AE22 AED58, AE23 AED61, AF20 AED50, AF21 AED54, AF23 AED62, AF24 AED63, B20 AED11, B21 AED7, B22 AED3, B23 AED2, B24 AED0, C19 AED15, C20 AED10, C21 AED6, C22 AED4, C25 AED30, C26 AED31, D19 AED14, D20 AED12, D21 AED8, D25 AED28, D26 AED29, E24 AED27, E25 AED26, F23 AED23, F24 AED25, F25 AED24, F26 AED22, G23 AED19, G24 AED21, G25 AED20, G26 AED18, H23 AED17, H24 AED16, H25 AECLKIN (in), J23 AECLKOUT2, J24 ~{AAOE}/~{ASDRAS}/~{ASASOE}, J25 ~{AARE}/~{ASDCAS}/~{ASADS}/~{ASRE}, J26 AECLKOUT1, K23 ~{ACE2}, K24 ~{ACE1}, K25 ~{ACE0}, K26 ~{AAWE}/~{ASDWE}/~{ASWE}, L22 AARDY, L23 ~{ABE1}, L24 ~{ABE0}, L25 ASDCKE, L26 ~{ACE3}, M22 ~{APDT}, M23 AEA4, M24 AEA3, M25 ~{ABE3}, M26 ~{ABE2}, N22 ~{AHOLD}A, N23 AEA7, N24 AEA6, N26 AEA5, P22 ABUSREQ, P23 AEA10, P24 AEA9, P26 AEA8, R22 ~{ASOE3}, R23 AEA12, R24 AEA11, R25 ~{ABE5}, R26 ~{ABE4}, T22 ~{ABE7}, T23 ~{ABE6}, T24 AEA14, T25 AEA13, U23 AEA22, U24 AEA17, U25 AEA16, U26 AEA15, V23 AEA18, V24 AEA21, V25 AEA20, V26 AEA19, W23 AED47, W24 ~{AHOLD}, Y23 AED45, Y24 AED43, Y25 AED44, Y26 AED46
part C pins: AA1 AD1/HD1, C1 PCLK/GP14, F1 ~{PREQ}/GP11, G1 HD31/AD31/MRCLK, G2 HD29/AD29/MRXER, G3 ~{PRST}/GP15, G4 ~{PINTA}/GP13, H2 HD27/AD27/MRXD3, H3 HD30/AD30/MCRS, H4 ~{PGNT}/GP12, J1 HD25/AD25/MRXD1, J2 ~{PCBE3}/GP10, J3 HD26/AD26/MRXD2, J4 HD28/AD28/MRXDV, K1 HD23/AD23, K2 AD21/HD21/MCOL, K3 PIDSEL/GP9, K4 HD24/AD24/MRXD0, L2 AD19/HD19/MTXD3, L3 AD20/HD20/MTXEN, L4 AD22/HD22/MTCLK, M1 ~{PCBE2}/HR/~{W}, M2 AD17/HD17/MTXD1, M3 AD16/HD16/MTXD0, M4 AD18/HD18/MTXD2, N1 ~{HRDY}/~{PIRDY}, N1 ~{FIRDY}/HRDY, N3 HHWIL/~{PTRDY}, N4 ~{PRFAME}/~{HINT}, P1 HCNTL1/~{PDVSEL}, P3 ~{HAS}/PPAR, P5 XSP_DO/MDIO, R1 ~{HCS}/~{PPERR}, R2 ~{HDSI}/~{PSERR}, R3 HCNTL0/~{PSTOP}, R4 XSP_DI, R5 XSP_CLK/MDCLK, T2 ~{PCBE1}/~{HDS2}, T3 AD15/HD15, T4 XSP_CS, U1 AD14/HD14, U2 AD12/HD12, U3 AD13/HD13, U4 AD11/HD11, V1 AD10/HD10, V2 AD8/HD8, V3 AD9/HD9, V4 ~{PCBE0}, W2 AD7/HD7, W3 AD4/HD4, W4 AD6/HD6, Y1 AD5/HD5, Y2 AD3/HD3, Y3 AD0/HD0, Y4 AD2/HD2
part D pins: AB13 VP0D17/ACLKX0, AB14 VP0D14/AHCLKR0, AB15 VP0D11, AB16 VP0D7/FSR0, AC12 VP0D19/AHCLKX0, AC13 VP0D16/AMUTE0, AC14 VP0D13/AFSR0, AC15 VP0D10, AC16 VP0D6/DR0, AC17 VP0CLTL1, AD12 VP0D18/AFSX0, AD13 VP0D15/AMUTEIN, AD14 VP0D12/ACLKR0, AD15 VP0D9, AD16 VP0D5/CLKS0, AD17 VP0CLTL2, AE15 VP0D8/CLKR0, AE16 VP0D4/DX0, AE17 VP0CLTL0, AE18 VP0D1, AF12 VP0CLK1, AF14 VP0CLK0 (in), AF16 VP0D3/FSX0, AF17 VP0D2/CLKX0, AF18 VP0D0
part E pins: AB11 VP1D18/AXR06, AB12 VP1D19/AXR07, AC6 VP1D4/DX1, AC7 VP1D7/FSR1, AC8 VP1D9, AC9 VP1D12/AXR00, AC10 VP1D14/AXR02, AC11 VP1D17/AXR05, AD5 VP1CLTL2, AD6 VP1D3/FSX1, AD7 VP1D6/DR1, AD8 VP1D8/CLKR1, AD9 VP1D11, AD10 VP1D13/AXR01, AD11 VP1D16/AXR04, AE5 VP1CLTL1, AE6 VP1D2/CLKX1, AE7 VP1D5/CLKS1, AE9 VP1D10, AE11 VP1D15/AXR03, AF4 VP1CLTL0, AF5 VP1D0, AF6 VP1D1, AF8 VP1CLK0 (in), AF10 VP1CLK1
part F pins: A7 VP2CLK0 (in), A9 VP2D2, A10 VP2D6, A11 VP2D10, A13 VP2CLK1, B8 VP2CLTL0, B9 VP2D3, B10 VP2D7, B11 VP2D11, B12 VP2D15, C7 VP2CLTL2, C8 VP2D0, C9 VP2D4, C10 VP2D8, C11 VP2D12, C12 VP2D16, D7 VP2CLTL1, D8 VP2D1, D9 VP2D5, D10 VP2D9, D11 VP2D13, D12 VP2D17, E11 VP2D14, E12 VP2D18, E13 VP2D19
part G pins: A4 TINP0, A5 TINP1, AC1 STCLK (in), AD1 GP8/PCI66/VDAC, B5 TOUT1/LENDIAN, C5 TOUT0/MAC_EN, D3 SDA0, E4 SCL0, L5 GP3/PCIEEAI, M5 GP0
part H pins: A1 VSS1 (power), A2 DVDD1 (power), A3 VSS2 (power), A6 VSS3 (power), A8 VSS4 (power), A12 VSS5 (power), A14 VSS6 (power), A19 VSS7 (power), A22 VSS8 (power), A25 DVDD2 (power), A26 VSS9 (power), AA9 DVDD45 (power), AA12 DVDD46 (power), AA15 DVDD47 (power), AA18 DVDD48 (power), AB5 DVDD49 (power), AB7 DVDD50 (power), AB8 DVDD51 (power), AB10 DVDD52 (power), AB17 DVDD53 (power), AB19 DVDD54 (power), AB20 DVDD55 (power), AB22 DVDD56 (power), AC23 DVDD57 (power), AD24 DVDD58 (power), AE1 DVDD59 (power), AE2 DVDD60 (power), AE13 DVDD61 (power), AE25 DVDD62 (power), AE26 DVDD63 (power), AF2 DVDD64 (power), AF25 DVDD65 (power), B1 DVDD3 (power), B2 DVDD4 (power), B3 VSS10 (power), B6 VSS11 (power), B7 VSS12 (power), B13 VSS13 (power), B14 DVDD5 (power), B19 VSS14 (power), B25 DVDD6 (power), B26 DVDD7 (power), C2 VSS15 (power), C3 DVDD8 (power), C4 VSS16 (power), C13 VSS17 (power), C18 VSS18 (power), C23 VSS19 (power), C24 DVDD9 (power), D1 VSS20 (power), D2 VSS21 (power), D4 DVDD10 (power), D5 VSS22 (power), D13 VSS23 (power), D18 VSS24 (power), D22 VSS25 (power), D23 DVDD11 (power), D24 VSS26 (power), E3 VSS27 (power), E5 DVDD12 (power), E6 VSS28 (power), E7 DVDD13 (power), E8 DVDD14 (power), E9 VSS29 (power), E10 DVDD15 (power), E16 VSS30 (power), E17 DVDD16 (power), E18 VSS31 (power), E19 DVDD17 (power), E20 DVDD18 (power), E21 VSS32 (power), E22 DVDD19 (power), E23 VSS33 (power), E26 VSS34 (power), F5 VSS72 (power), F8 VSS35 (power), F9 DVDD20 (power), F10 VSS36 (power), F11 VSS37 (power), F12 DVDD21 (power), F13 VSS38 (power), F14 VSS39 (power), F15 DVDD22 (power), F16 VSS40 (power), F17 VSS41 (power), F18 DVDD23 (power), F19 VSS42 (power), F22 VSS43 (power), G5 DVDD24 (power), G9 VSS44 (power), G12 VSS45 (power), G15 VSS46 (power), G18 VSS47 (power), G22 DVDD25 (power), H1 VSS48 (power), H5 DVDD26 (power), H6 VSS49 (power), H21 VSS50 (power), H22 DVDD27 (power), H26 VSS51 (power), J5 VSS52 (power), J6 DVDD28 (power), J7 VSS53 (power), J20 VSS54 (power), J21 DVDD29 (power), J22 VSS55 (power), K5 DVDD30 (power), K6 VSS56 (power), K21 VSS57 (power), K22 DVDD31 (power), L1 VSS58 (power), L6 VSS59 (power), L21 VSS60 (power), M6 DVDD32 (power), M7 VSS61 (power), M13 VSS62 (power), M15 VSS63 (power), M20 VSS64 (power), M21 DVDD33 (power), N2 DVDD34 (power), N5 VSS65 (power), N6 VSS66 (power), N12 VSS67 (power), N14 VSS68 (power), N21 VSS69 (power), N25 VSS70 (power), P2 VSS71 (power), P25 DVDD35 (power), R6 DVDD66 (power), R21 DVDD36 (power), U5 DVDD37 (power), U22 DVDD38 (power), V21 DVDD39 (power), W5 DVDD40 (power), W22 DVDD41 (power), W25 DVDD42 (power), Y5 DVDD43 (power), Y22 DVDD44 (power)
part I pins: AA4 VSS99 (power), AA5 VSS100 (power), AA6 CVDD51 (power), AA7 CVDD52 (power), AA8 VSS101 (power), AA10 VSS102 (power), AA11 VSS103 (power), AA13 VSS104 (power), AA14 VSS105 (power), AA16 VSS106 (power), AA17 VSS107 (power), AA19 VSS108 (power), AA20 CVDD53 (power), AA21 CVDD54 (power), AA22 VSS109 (power), AB1 VSS110 (power), AB2 VSS111 (power), AB4 VSS112 (power), AB6 VSS113 (power), AB9 VSS114 (power), AB18 VSS115 (power), AB21 VSS116 (power), AB26 VSS117 (power), AC3 VSS118 (power), AC5 VSS119 (power), AC18 VSS120 (power), AC22 VSS121 (power), AC24 VSS122 (power), AD2 VSS123 (power), AD4 VSS124 (power), AD18 VSS125 (power), AE3 VSS126 (power), AE8 VSS127 (power), AE10 VSS128 (power), AE12 VSS129 (power), AE14 VSS130 (power), AE19 VSS131 (power), AE24 VSS132 (power), AF1 VSS133 (power), AF7 VSS134 (power), AF9 VSS135 (power), AF11 VSS136 (power), AF13 VSS137 (power), AF15 VSS138 (power), AF19 VSS139 (power), AF22 VSS140 (power), AF26 VSS141 (power), F6 CVDD1, F7 CVDD2, F20 CVDD3 (power), F21 CVDD4 (power), G6 CVDD5 (power), G7 CVDD6 (power), G8 CVDD7 (power), G10 CVDD8 (power), G11 CVDD9 (power), G13 CVDD10 (power), G14 CVDD11 (power), G16 CVDD12 (power), G17 CVDD13 (power), G19 CVDD14 (power), G20 CVDD15 (power), G21 CVDD16 (power), H7 CVDD55 (power), H20 CVDD17 (power), K7 CVDD18 (power), K20 CVDD19 (power), L7 CVDD20 (power), L20 CVDD21 (power), M12 CVDD22 (power), M14 CVDD23 (power), N7 CVDD24 (power), N13 CVDD25 (power), N15 CVDD26 (power), N20 CVDD27 (power), P6 VSS72 (power), P7 CVDD28 (power), P12 CVDD29 (power), P13 VSS73 (power), P14 CVDD30 (power), P15 VSS74 (power), P20 CVDD31 (power), P21 VSS75 (power), R7 VSS76 (power), R12 VSS77 (power), R13 CVDD32 (power), R14 VSS78 (power), R15 CVDD33 (power), R20 VSS79 (power), T1 VSS80 (power), T5 VSS81 (power), T6 VSS82 (power), T7 CVDD34 (power), T20 CVDD35 (power), T21 VSS83 (power), T26 VSS84 (power), U6 VSS85 (power), U7 CVDD36 (power), U20 CVDD37 (power), U21 VSS86 (power), V5 VSS87 (power), V7 VSS88 (power), V20 VSS89 (power), V22 VSS90 (power), W1 VSS91 (power), W6 VSS92 (power), W20 CVDD38 (power), W21 VSS93 (power), W26 VSS94 (power), Y6 CVDD39 (power), Y7 CVDD40 (power), Y8 CVDD41 (power), Y9 VSS95 (power), Y10 CVDD42 (power), Y11 CVDD43 (power), Y12 VSS96 (power), Y13 CVDD44 (power), Y14 CVDD45 (power), Y15 VSS97 (power), Y16 CVDD46 (power), Y17 CVDD47 (power), Y18 VSS98 (power), Y19 CVDD48 (power), Y20 CVDD49 (power), Y21 CVDD50 (power)

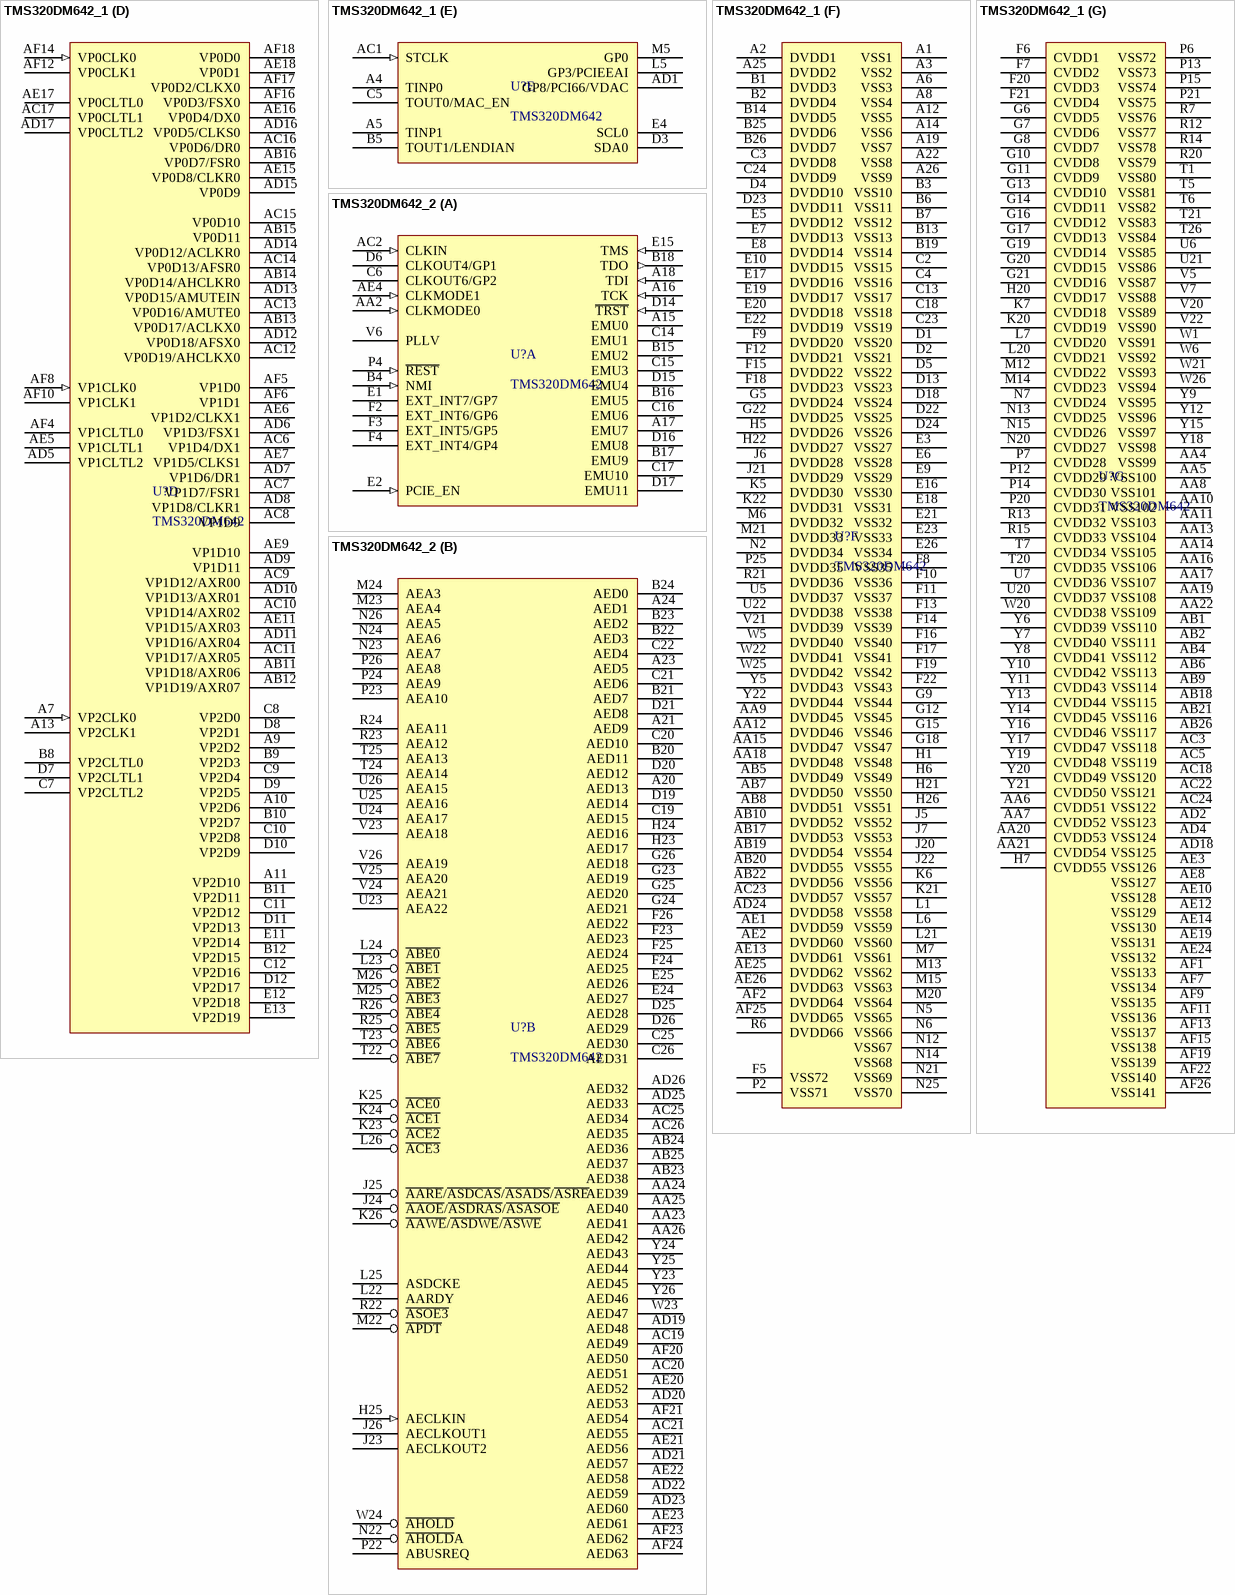
[diagram p26: symbols TMS320DM642_1 to TMS320DM642_2]

## TMS320DM642_1
designator U?, comment TMS320DM642
footprint GDK (Footprint not found)
footprint GNZ (Footprint not found)
footprint ZDK (Footprint not found)
footprint ZNZ (Footprint not found)
footprint GDK548
part A pins: A15 EMU0, A16 TCK (in), A17 EMU7, A18 TDI (in), AA2 CLKMODE0 (in), AC2 CLKIN (in), AE4 CLKMODE1 (in), B4 NMI (in), B15 EMU2, B16 EMU5, B17 EMU9, B18 TDO (out), C6 CLKOUT6/GP2, C14 EMU1, C15 EMU3, C16 EMU6, C17 EMU10, D6 CLKOUT4/GP1, D14 ~{TRST} (in), D15 EMU4, D16 EMU8, D17 EMU11, E1 EXT_INT7/GP7, E2 PCIE_EN (in), E15 TMS (in), F2 EXT_INT6/GP6, F3 EXT_INT5/GP5, F4 EXT_INT4/GP4, P4 ~{REST} (in), V6 PLLV
part B pins: A20 AED13, A21 AED9, A23 AED5, A24 AED1, AA23 AED41, AA24 AED39, AA25 AED40, AA26 AED42, AB23 AED38, AB24 AED36, AB25 AED37, AC19 AED49, AC20 AED51, AC21 AED55, AC25 AED34, AC26 AED35, AD19 AED48, AD20 AED53, AD21 AED57, AD22 AED59, AD23 AED60, AD25 AED33, AD26 AED32, AE20 AED52, AE21 AED56, AE22 AED58, AE23 AED61, AF20 AED50, AF21 AED54, AF23 AED62, AF24 AED63, B20 AED11, B21 AED7, B22 AED3, B23 AED2, B24 AED0, C19 AED15, C20 AED10, C21 AED6, C22 AED4, C25 AED30, C26 AED31, D19 AED14, D20 AED12, D21 AED8, D25 AED28, D26 AED29, E24 AED27, E25 AED26, F23 AED23, F24 AED25, F25 AED24, F26 AED22, G23 AED19, G24 AED21, G25 AED20, G26 AED18, H23 AED17, H24 AED16, H25 AECLKIN (in), J23 AECLKOUT2, J24 ~{AAOE}/~{ASDRAS}/~{ASASOE}, J25 ~{AARE}/~{ASDCAS}/~{ASADS}/~{ASRE}, J26 AECLKOUT1, K23 ~{ACE2}, K24 ~{ACE1}, K25 ~{ACE0}, K26 ~{AAWE}/~{ASDWE}/~{ASWE}, L22 AARDY, L23 ~{ABE1}, L24 ~{ABE0}, L25 ASDCKE, L26 ~{ACE3}, M22 ~{APDT}, M23 AEA4, M24 AEA3, M25 ~{ABE3}, M26 ~{ABE2}, N22 ~{AHOLD}A, N23 AEA7, N24 AEA6, N26 AEA5, P22 ABUSREQ, P23 AEA10, P24 AEA9, P26 AEA8, R22 ~{ASOE3}, R23 AEA12, R24 AEA11, R25 ~{ABE5}, R26 ~{ABE4}, T22 ~{ABE7}, T23 ~{ABE6}, T24 AEA14, T25 AEA13, U23 AEA22, U24 AEA17, U25 AEA16, U26 AEA15, V23 AEA18, V24 AEA21, V25 AEA20, V26 AEA19, W23 AED47, W24 ~{AHOLD}, Y23 AED45, Y24 AED43, Y25 AED44, Y26 AED46
part C pins: AA1 AD1/HD1, C1 PCLK/GP14, F1 ~{PREQ}/GP11, G1 HD31/AD31/MRCLK, G2 HD29/AD29/MRXER, G3 ~{PRST}/GP15, G4 ~{PINTA}/GP13, H2 HD27/AD27/MRXD3, H3 HD30/AD30/MCRS, H4 ~{PGNT}/GP12, J1 HD25/AD25/MRXD1, J2 ~{PCBE3}/GP10, J3 HD26/AD26/MRXD2, J4 HD28/AD28/MRXDV, K1 HD23/AD23, K2 AD21/HD21/MCOL, K3 PIDSEL/GP9, K4 HD24/AD24/MRXD0, L2 AD19/HD19/MTXD3, L3 AD20/HD20/MTXEN, L4 AD22/HD22/MTCLK, M1 ~{PCBE2}/HR/~{W}, M2 AD17/HD17/MTXD1, M3 AD16/HD16/MTXD0, M4 AD18/HD18/MTXD2, N1 ~{HRDY}/~{PIRDY}, N3 HHWIL/~{PTRDY}, N4 ~{PRFAME}/~{HINT}, P1 HCNTL1/~{PDVSEL}, P3 ~{HAS}/PPAR, P5 XSP_DO/MDIO, R1 ~{HCS}/~{PPERR}, R2 ~{HDSI}/~{PSERR}, R3 HCNTL0/~{PSTOP}, R4 XSP_DI, R5 XSP_CLK/MDCLK, T2 ~{PCBE1}/~{HDS2}, T3 AD15/HD15, T4 XSP_CS, U1 AD14/HD14, U2 AD12/HD12, U3 AD13/HD13, U4 AD11/HD11, V1 AD10/HD10, V2 AD8/HD8, V3 AD9/HD9, V4 ~{PCBE0}, W2 AD7/HD7, W3 AD4/HD4, W4 AD6/HD6, Y1 AD5/HD5, Y2 AD3/HD3, Y3 AD0/HD0, Y4 AD2/HD2
part D pins: A7 VP2CLK0 (in), A9 VP2D2, A10 VP2D6, A11 VP2D10, A13 VP2CLK1, AB11 VP1D18/AXR06, AB12 VP1D19/AXR07, AB13 VP0D17/ACLKX0, AB14 VP0D14/AHCLKR0, AB15 VP0D11, AB16 VP0D7/FSR0, AC6 VP1D4/DX1, AC7 VP1D7/FSR1, AC8 VP1D9, AC9 VP1D12/AXR00, AC10 VP1D14/AXR02, AC11 VP1D17/AXR05, AC12 VP0D19/AHCLKX0, AC13 VP0D16/AMUTE0, AC14 VP0D13/AFSR0, AC15 VP0D10, AC16 VP0D6/DR0, AC17 VP0CLTL1, AD5 VP1CLTL2, AD6 VP1D3/FSX1, AD7 VP1D6/DR1, AD8 VP1D8/CLKR1, AD9 VP1D11, AD10 VP1D13/AXR01, AD11 VP1D16/AXR04, AD12 VP0D18/AFSX0, AD13 VP0D15/AMUTEIN, AD14 VP0D12/ACLKR0, AD15 VP0D9, AD16 VP0D5/CLKS0, AD17 VP0CLTL2, AE5 VP1CLTL1, AE6 VP1D2/CLKX1, AE7 VP1D5/CLKS1, AE9 VP1D10, AE11 VP1D15/AXR03, AE15 VP0D8/CLKR0, AE16 VP0D4/DX0, AE17 VP0CLTL0, AE18 VP0D1, AF4 VP1CLTL0, AF5 VP1D0, AF6 VP1D1, AF8 VP1CLK0 (in), AF10 VP1CLK1, AF12 VP0CLK1, AF14 VP0CLK0 (in), AF16 VP0D3/FSX0, AF17 VP0D2/CLKX0, AF18 VP0D0, B8 VP2CLTL0, B9 VP2D3, B10 VP2D7, B11 VP2D11, B12 VP2D15, C7 VP2CLTL2, C8 VP2D0, C9 VP2D4, C10 VP2D8, C11 VP2D12, C12 VP2D16, D7 VP2CLTL1, D8 VP2D1, D9 VP2D5, D10 VP2D9, D11 VP2D13, D12 VP2D17, E11 VP2D14, E12 VP2D18, E13 VP2D19
part E pins: A4 TINP0, A5 TINP1, AC1 STCLK (in), AD1 GP8/PCI66/VDAC, B5 TOUT1/LENDIAN, C5 TOUT0/MAC_EN, D3 SDA0, E4 SCL0, L5 GP3/PCIEEAI, M5 GP0
part F pins: A1 VSS1 (power), A2 DVDD1 (power), A3 VSS2 (power), A6 VSS3 (power), A8 VSS4 (power), A12 VSS5 (power), A14 VSS6 (power), A19 VSS7 (power), A22 VSS8 (power), A25 DVDD2 (power), A26 VSS9 (power), AA9 DVDD45 (power), AA12 DVDD46 (power), AA15 DVDD47 (power), AA18 DVDD48 (power), AB5 DVDD49 (power), AB7 DVDD50 (power), AB8 DVDD51 (power), AB10 DVDD52 (power), AB17 DVDD53 (power), AB19 DVDD54 (power), AB20 DVDD55 (power), AB22 DVDD56 (power), AC23 DVDD57 (power), AD24 DVDD58 (power), AE1 DVDD59 (power), AE2 DVDD60 (power), AE13 DVDD61 (power), AE25 DVDD62 (power), AE26 DVDD63 (power), AF2 DVDD64 (power), AF25 DVDD65 (power), B1 DVDD3 (power), B2 DVDD4 (power), B3 VSS10 (power), B6 VSS11 (power), B7 VSS12 (power), B13 VSS13 (power), B14 DVDD5 (power), B19 VSS14 (power), B25 DVDD6 (power), B26 DVDD7 (power), C2 VSS15 (power), C3 DVDD8 (power), C4 VSS16 (power), C13 VSS17 (power), C18 VSS18 (power), C23 VSS19 (power), C24 DVDD9 (power), D1 VSS20 (power), D2 VSS21 (power), D4 DVDD10 (power), D5 VSS22 (power), D13 VSS23 (power), D18 VSS24 (power), D22 VSS25 (power), D23 DVDD11 (power), D24 VSS26 (power), E3 VSS27 (power), E5 DVDD12 (power), E6 VSS28 (power), E7 DVDD13 (power), E8 DVDD14 (power), E9 VSS29 (power), E10 DVDD15 (power), E16 VSS30 (power), E17 DVDD16 (power), E18 VSS31 (power), E19 DVDD17 (power), E20 DVDD18 (power), E21 VSS32 (power), E22 DVDD19 (power), E23 VSS33 (power), E26 VSS34 (power), F5 VSS72 (power), F8 VSS35 (power), F9 DVDD20 (power), F10 VSS36 (power), F11 VSS37 (power), F12 DVDD21 (power), F13 VSS38 (power), F14 VSS39 (power), F15 DVDD22 (power), F16 VSS40 (power), F17 VSS41 (power), F18 DVDD23 (power), F19 VSS42 (power), F22 VSS43 (power), G5 DVDD24 (power), G9 VSS44 (power), G12 VSS45 (power), G15 VSS46 (power), G18 VSS47 (power), G22 DVDD25 (power), H1 VSS48 (power), H5 DVDD26 (power), H6 VSS49 (power), H21 VSS50 (power), H22 DVDD27 (power), H26 VSS51 (power), J5 VSS52 (power), J6 DVDD28 (power), J7 VSS53 (power), J20 VSS54 (power), J21 DVDD29 (power), J22 VSS55 (power), K5 DVDD30 (power), K6 VSS56 (power), K21 VSS57 (power), K22 DVDD31 (power), L1 VSS58 (power), L6 VSS59 (power), L21 VSS60 (power), M6 DVDD32 (power), M7 VSS61 (power), M13 VSS62 (power), M15 VSS63 (power), M20 VSS64 (power), M21 DVDD33 (power), N2 DVDD34 (power), N5 VSS65 (power), N6 VSS66 (power), N12 VSS67 (power), N14 VSS68 (power), N21 VSS69 (power), N25 VSS70 (power), P2 VSS71 (power), P25 DVDD35 (power), R6 DVDD66 (power), R21 DVDD36 (power), U5 DVDD37 (power), U22 DVDD38 (power), V21 DVDD39 (power), W5 DVDD40 (power), W22 DVDD41 (power), W25 DVDD42 (power), Y5 DVDD43 (power), Y22 DVDD44 (power)
part G pins: AA4 VSS99 (power), AA5 VSS100 (power), AA6 CVDD51 (power), AA7 CVDD52 (power), AA8 VSS101 (power), AA10 VSS102 (power), AA11 VSS103 (power), AA13 VSS104 (power), AA14 VSS105 (power), AA16 VSS106 (power), AA17 VSS107 (power), AA19 VSS108 (power), AA20 CVDD53 (power), AA21 CVDD54 (power), AA22 VSS109 (power), AB1 VSS110 (power), AB2 VSS111 (power), AB4 VSS112 (power), AB6 VSS113 (power), AB9 VSS114 (power), AB18 VSS115 (power), AB21 VSS116 (power), AB26 VSS117 (power), AC3 VSS118 (power), AC5 VSS119 (power), AC18 VSS120 (power), AC22 VSS121 (power), AC24 VSS122 (power), AD2 VSS123 (power), AD4 VSS124 (power), AD18 VSS125 (power), AE3 VSS126 (power), AE8 VSS127 (power), AE10 VSS128 (power), AE12 VSS129 (power), AE14 VSS130 (power), AE19 VSS131 (power), AE24 VSS132 (power), AF1 VSS133 (power), AF7 VSS134 (power), AF9 VSS135 (power), AF11 VSS136 (power), AF13 VSS137 (power), AF15 VSS138 (power), AF19 VSS139 (power), AF22 VSS140 (power), AF26 VSS141 (power), F6 CVDD1, F7 CVDD2, F20 CVDD3 (power), F21 CVDD4 (power), G6 CVDD5 (power), G7 CVDD6 (power), G8 CVDD7 (power), G10 CVDD8 (power), G11 CVDD9 (power), G13 CVDD10 (power), G14 CVDD11 (power), G16 CVDD12 (power), G17 CVDD13 (power), G19 CVDD14 (power), G20 CVDD15 (power), G21 CVDD16 (power), H7 CVDD55 (power), H20 CVDD17 (power), K7 CVDD18 (power), K20 CVDD19 (power), L7 CVDD20 (power), L20 CVDD21 (power), M12 CVDD22 (power), M14 CVDD23 (power), N7 CVDD24 (power), N13 CVDD25 (power), N15 CVDD26 (power), N20 CVDD27 (power), P6 VSS72 (power), P7 CVDD28 (power), P12 CVDD29 (power), P13 VSS73 (power), P14 CVDD30 (power), P15 VSS74 (power), P20 CVDD31 (power), P21 VSS75 (power), R7 VSS76 (power), R12 VSS77 (power), R13 CVDD32 (power), R14 VSS78 (power), R15 CVDD33 (power), R20 VSS79 (power), T1 VSS80 (power), T5 VSS81 (power), T6 VSS82 (power), T7 CVDD34 (power), T20 CVDD35 (power), T21 VSS83 (power), T26 VSS84 (power), U6 VSS85 (power), U7 CVDD36 (power), U20 CVDD37 (power), U21 VSS86 (power), V5 VSS87 (power), V7 VSS88 (power), V20 VSS89 (power), V22 VSS90 (power), W1 VSS91 (power), W6 VSS92 (power), W20 CVDD38 (power), W21 VSS93 (power), W26 VSS94 (power), Y6 CVDD39 (power), Y7 CVDD40 (power), Y8 CVDD41 (power), Y9 VSS95 (power), Y10 CVDD42 (power), Y11 CVDD43 (power), Y12 VSS96 (power), Y13 CVDD44 (power), Y14 CVDD45 (power), Y15 VSS97 (power), Y16 CVDD46 (power), Y17 CVDD47 (power), Y18 VSS98 (power), Y19 CVDD48 (power), Y20 CVDD49 (power), Y21 CVDD50 (power)

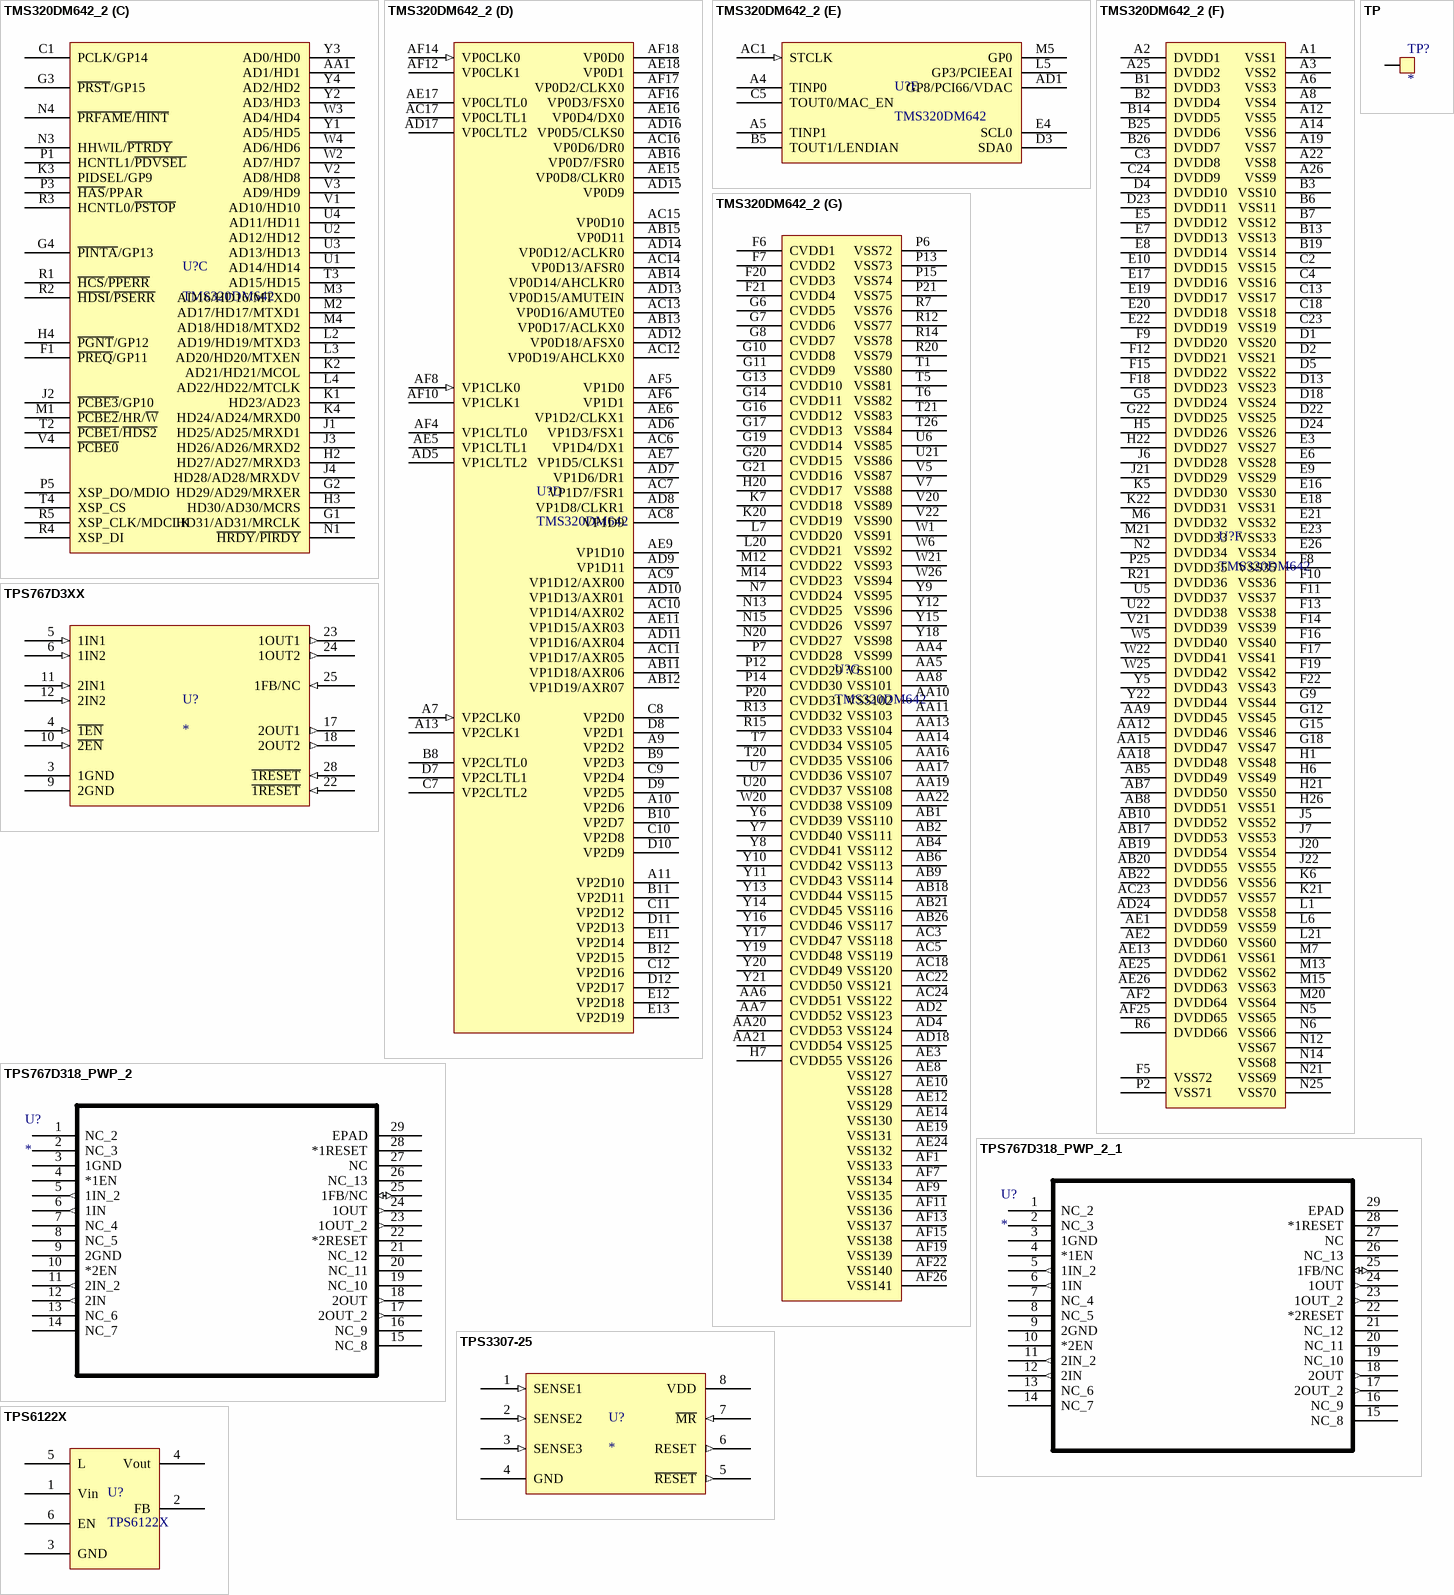
[diagram p27: symbols TMS320DM642_2 to TPS6122X]